# Altium schematic symbol library EDU_High-Speed-Design.SchLib: 69 symbols (part 1 of 2)
Pins are listed as number, name and electrical type; pins without a type are passive.

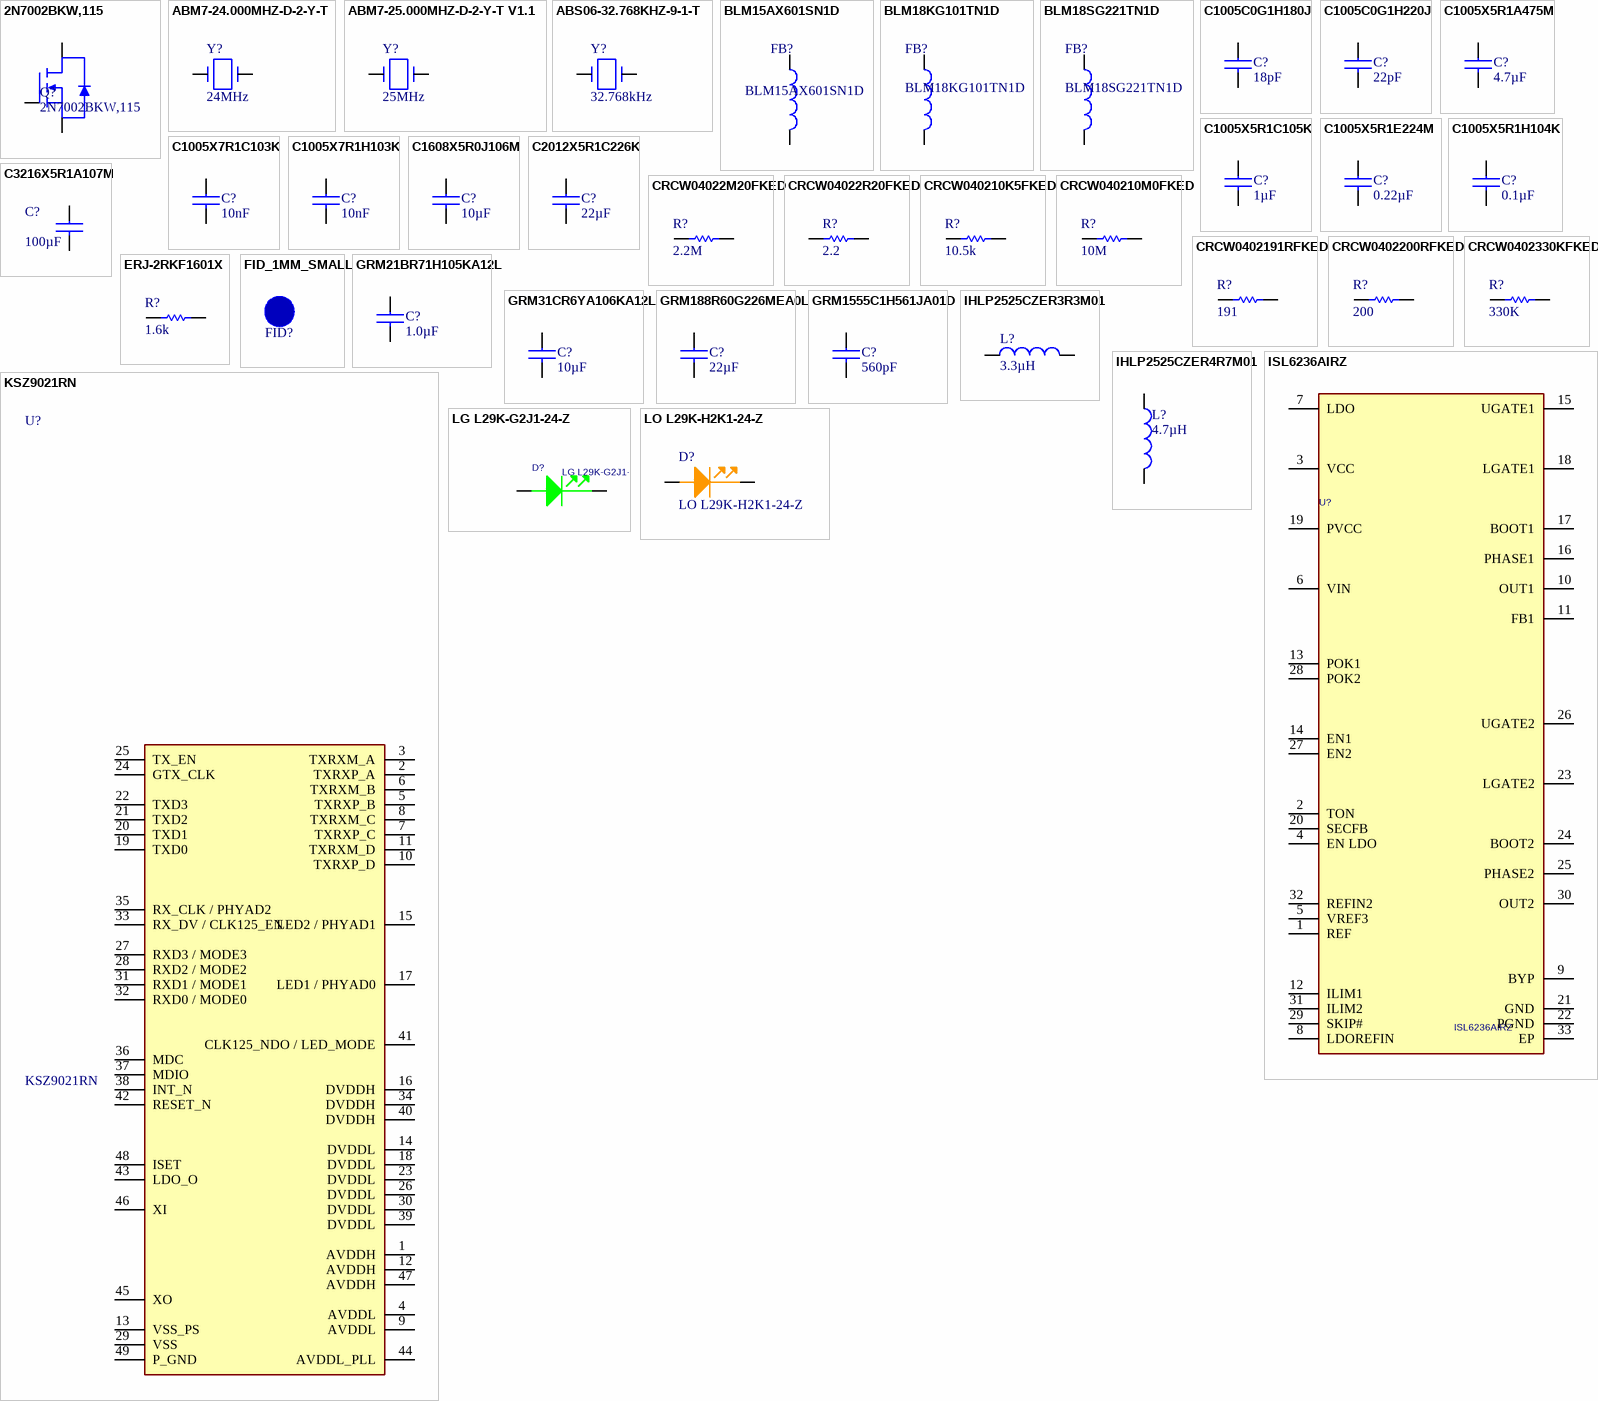
[diagram p0: symbols 2N7002BKW,115 to LO L29K-H2K1-24-Z]

## 2N7002BKW,115
designator Q?
MOSFET N-CH 60V 310MA SOT323; Manufacturer 1: NXP Semiconductors; Supplier 1: Digi-Key; Supplier Part Number 1: 568-5980-1-ND; Manufacturer Part Number 1: 2N7002BKW,115; ComponentLink1URL: http://www.nxp.com/documents/data_sheet/2N7002BKW.pdf; ComponentLink1Description: http://www.nxp.com/documents/data_sheet/2N7002BKW.pdf
footprint SOT-23-3 (SOT23, 3-Leads, Body 2.92x1.3mm, Pitch 0.95mm)
pins: 1 G, 2 S, 3 D

## ABM7-24.000MHZ-D-2-Y-T
designator Y?, comment 24MHz
CRYSTAL 24.0000MHZ 18PF SMD; Manufacturer 1: Abracon Corporation; Manufacturer Part Number 1: ABM7-24.000MHZ-D-2-Y-T; Supplier 1: Digi-Key; Frequency: 24MHz; ComponentLink1URL: http://www.abracon.com/Resonators/abm7.pdf; ComponentLink1Description: http://www.abracon.com/Resonators/abm7.pdf; Supplier Part Number 1: 535-9845-1-ND
footprint ABM7 (2-SMD, No Lead, 6.00mm L x 3.50mm W)
pins: 1, 2

## ABM7-25.000MHZ-D-2-Y-T V1.1
designator Y?, comment 25MHz
CRYSTAL 25.0000 MHZ 18PF SMD; Manufacturer 1: Abracon Corporation; Manufacturer Part Number 1: ABM7-25.000MHZ-D-2-Y-T; Frequency: 25MHz; Supplier 1: Digi-Key; Supplier Part Number 1: 535-9847-1-ND; ComponentLink1URL: http://www.abracon.com/Resonators/abm7.pdf; ComponentLink1Description: http://www.abracon.com/Resonators/abm7.pdf
footprint ABM7 (2-SMD, No Lead, 6.00mm L x 3.50mm W)
pins: 1, 2

## ABS06-32.768KHZ-9-1-T
designator Y?, comment 32.768kHz
CRYSTAL 32.768 KHZ 9.0 PF SMD; Manufacturer 1: Abracon Corporation; Manufacturer Part Number 1: ABS06-32.768KHZ-9-1-T; Frequency: 32.768kHz; Supplier 1: Digi-Key; ComponentLink1URL: http://www.abracon.com/Resonators/ABS06.pdf; ComponentLink1Description: http://www.abracon.com/Resonators/ABS06.pdf; Supplier Part Number 1: 535-10247-1-ND
footprint ABS06
pins: 1, 2

## BLM15AX601SN1D
designator FB?
FERRITE CHIP 600 OHM 0402 420mA; Manufacturer 1: Murata Electronics North America; Manufacturer Part Number 1: BLM15AX601SN1D; Supplier 1: Digi-Key; Supplier Part Number 1: 490-5441-1-ND; ComponentLink1URL: http://search.murata.co.jp/Ceramy/image/img/PDF/ENG/L0110S0100BLM15AX_SN.pdf; ComponentLink1Description: http://search.murata.co.jp/Ceramy/image/img/PDF/ENG/L0110S0100BLM15AX_SN.pdf
footprint L0402 (Chip ferrite bead, 2-Leads, Body 1.00x0.55mm, IPC Medium Density)
pins: 1, 2

## BLM18KG101TN1D
designator FB?
FERRITE CHIP 100 OHM BEAD 0603 3A; Manufacturer 1: Murata Electronics North America; Manufacturer Part Number 1: BLM18KG101TN1D; Supplier 1: Digi-Key; Supplier Part Number 1: 490-5448-1-ND; ComponentLink1URL: http://search.murata.co.jp/Ceramy/image/img/PDF/ENG/L0110S0100BLM18K.pdf; ComponentLink1Description: http://search.murata.co.jp/Ceramy/image/img/PDF/ENG/L0110S0100BLM18K.pdf
footprint L0603 (0.024" x 0.012" (0.60mm x 0.30mm) (L x W))
pins: 1, 2

## BLM18SG221TN1D
designator FB?
FERRITE CHIP 220 OHM 2500MA 0603; Manufacturer 1: Murata Electronics North America; Supplier 1: Digi-Key; Supplier Part Number 1: 490-5225-1-ND; Manufacturer Part Number 1: BLM18SG221TN1D; ComponentLink1URL: http://search.murata.co.jp/Ceramy/image/img/PDF/ENG/L0110S0100BLM18S.pdf; ComponentLink1Description: http://search.murata.co.jp/Ceramy/image/img/PDF/ENG/L0110S0100BLM18S.pdf
footprint L0603 (0.024" x 0.012" (0.60mm x 0.30mm) (L x W))
pins: 1, 2

## C1005C0G1H180J
designator C?, comment 18pF
CAP CER 18PF 50V C0G 5% 0402; Manufacturer 1: TDK Corporation; Manufacturer Part Number 1: C1005C0G1H180J; Capacitance: 18pF; Supplier 1: Digi-Key; Supplier Part Number 1: 445-1238-1-ND; ComponentLink1URL: http://www.tdk.co.jp/tefe02/e412_c.pdf; ComponentLink1Description: http://www.tdk.co.jp/tefe02/e412_c.pdf; Voltage: 50V
footprint C0402
pins: 1, 2

## C1005C0G1H220J
designator C?, comment 22pF
CAP CER 22PF 50V C0G 5% 0402; Manufacturer 1: TDK Corporation; Manufacturer Part Number 1: C1005C0G1H220J; Capacitance: 22pF; Supplier 1: Digi-Key; Supplier Part Number 1: 445-1239-1-ND; ComponentLink1URL: http://www.tdk.co.jp/tefe02/e412_c.pdf; ComponentLink1Description: http://www.tdk.co.jp/tefe02/e412_c.pdf; Voltage: 50V
footprint C0402
pins: 1, 2

## C1005X5R1A475M
designator C?, comment 4.7µF
CAP CER 4.7UF 10V 20% X5R 0402; Manufacturer 1: TDK Corporation; Manufacturer Part Number 1: C1005X5R1A475M; Supplier 1: Digi-Key; Supplier Part Number 1: 445-8023-1-ND; Capacitance: 4.7µF; Voltage: 10V; ComponentLink1URL: http://www.tdk.com/pdf/general_B11.pdf; ComponentLink1Description: http://www.tdk.com/pdf/general_B11.pdf
footprint C0402
pins: 1, 2

## C1005X5R1C105K
designator C?, comment 1µF
CAP CER 1.0UF 16V X5R 0402; Manufacturer 1: TDK Corporation; Manufacturer Part Number 1: C1005X5R1C105K; Capacitance: 1µF; Voltage: 16V; Supplier 1: Digi-Key; Supplier Part Number 1: 445-4978-1-ND; ComponentLink1URL: http://www.tdk.co.jp/tefe02/e412_c.pdf; ComponentLink1Description: http://www.tdk.co.jp/tefe02/e412_c.pdf
footprint C0402
pins: 1, 2

## C1005X5R1E224M
designator C?, comment 0.22µF
CAP CER .22UF 25V X5R 20% 0402; Manufacturer 1: TDK Corporation; Manufacturer Part Number 1: C1005X5R1E224M; Capacitance: 0.22µF; Voltage: 25V; Supplier 1: Digi-Key; Supplier Part Number 1: 445-5945-1-ND; ComponentLink1URL: http://www.tdk.co.jp/tefe02/e412_c.pdf; ComponentLink1Description: http://www.tdk.co.jp/tefe02/e412_c.pdf
footprint C0402
pins: 1, 2

## C1005X5R1H104K
designator C?, comment 0.1µF
CAP CER .10UF 50V X5R 10% 0402; Manufacturer 1: TDK Corporation; Manufacturer Part Number 1: C1005X5R1H104K; Capacitance: 0.1µF; Voltage: 50V; Supplier 1: Digi-Key; Supplier Part Number 1: 445-5942-1-ND; ComponentLink1URL: http://www.tdk.co.jp/tefe02/e412_c.pdf; ComponentLink1Description: http://www.tdk.co.jp/tefe02/e412_c.pdf
footprint C0402
pins: 1, 2

## C1005X7R1C103K
designator C?, comment 10nF
CAP CER 10000PF 16V X7R 10% 0402; Manufacturer: TDK Corporation; Manufacturer Part Number: C1005X7R1C103K; Capacitance: 10nF; Voltage: 16V; Supplier 1: Digi-Key; Supplier Part Number 1: 445-1262-1-ND; ComponentLink1URL: http://www.tdk.co.jp/tefe02/e412_c.pdf; ComponentLink1Description: http://www.tdk.co.jp/tefe02/e412_c.pdf
footprint C0402
pins: 1, 2

## C1005X7R1H103K
designator C?, comment 10nF
CAP CER 10000PF 50V 10% X7R 0402; Manufacturer: TDK Corporation; Manufacturer Part Number: C1005X7R1H103K; Capacitance: 10nF; Voltage: 50V; Supplier 1: Digi-Key; Supplier Part Number 1: 445-6850-1-ND; ComponentLink1URL: http://www.tdk.co.jp/tefe02/e412_c.pdf; ComponentLink1Description: http://www.tdk.co.jp/tefe02/e412_c.pdf
footprint C0402
pins: 1, 2

## C1608X5R0J106M
designator C?, comment 10µF
CAP CER 10UF 6.3V X5R 20% 0603; Manufacturer 1: TDK Corporation; Manufacturer Part Number 1: C1608X5R0J106M; Capacitance: 10µF; Voltage: 6.3V; Supplier 1: Digi-Key; Supplier Part Number 1: 445-4112-1-ND; ComponentLink1URL: http://www.tdk.com/pdf/general_B11.pdf; ComponentLink1Description: http://www.tdk.com/pdf/general_B11.pdf
footprint C0603
pins: 1, 2

## C2012X5R1C226K
designator C?, comment 22µF
CAP CER 22UF 16V 10% X5R 0805; Manufacturer 1: TDK Corporation; Manufacturer Part Number 1: C2012X5R1C226K; Supplier 1: Digi-Key; Supplier Part Number 1: 445-6797-1-ND; Capacitance: 22µF; Voltage: 16V; ComponentLink1URL: http://www.tdk.com/pdf/general_B11.pdf; ComponentLink1Description: http://www.tdk.com/pdf/general_B11.pdf
footprint C0805
pins: 1, 2

## C3216X5R1A107M
designator C?, comment 100µF
CAP CER 100UF 10V X5R 20% 1206; Manufacturer 1: TDK Corporation; Manufacturer Part Number 1: C3216X5R1A107M; Capacitance: 100µF; Voltage: 10V; Supplier 1: Digi-Key; Supplier Part Number 1: 445-6007-1-ND; ComponentLink1URL: http://www.tdk.com/pdf/general_B11.pdf; ComponentLink1Description: http://www.tdk.com/pdf/general_B11.pdf
footprint C1206
pins: 1, 2

## CRCW04022M20FKED
designator R?, comment 2.2M
RES 2.20M OHM 1/16W 1% 0402 SMD; Manufacturer 1: Vishay Dale; Manufacturer Part Number 1: CRCW04022M20FKED; Supplier 1: Digi-Key; Resistance: 2.2M; ComponentLink1URL: http://www.vishay.com/doc?20035; ComponentLink1Description: http://www.vishay.com/doc?20035; Supplier Part Number 1: 541-2.20MLCT-ND
footprint R0402
pins: 1, 2

## CRCW04022R20FKED
designator R?, comment 2.2
RES 2.20 OHM 1/16W 1% 0402 SMD; Manufacturer 1: Vishay Dale; Manufacturer Part Number 1: CRCW04022R20FKED; Supplier 1: Digi-Key; Supplier Part Number 1: 541-2.20LLCT-ND; Resistance: 2.2; ComponentLink1URL: http://www.vishay.com/docs/20035/dcrcwe3.pdf; ComponentLink1Description: http://www.vishay.com/docs/20035/dcrcwe3.pdf
footprint R0402
pins: 1, 2

## CRCW040210K5FKED
designator R?, comment 10.5k
RES 10.5K OHM 1/16W 1% 0402 SMD; Manufacturer 1: Vishay/Dale; Manufacturer Part Number 1: CRCW040210K5FKED; Resistance: 10.5k; Supplier 1: Digi-Key; Supplier Part Number 1: 541-10.5KLCT-ND; ComponentLink1URL: http://www.vishay.com/doc?20035; ComponentLink1Description: http://www.vishay.com/doc?20035
footprint R0402
pins: 1, 2

## CRCW040210M0FKED
designator R?, comment 10M
RES 10.0M OHM 1/16W 1% 0402 SMD; Manufacturer 1: Vishay Dale; Manufacturer Part Number 1: CRCW040210M0FKED; Supplier 1: Digi-Key; Supplier Part Number 1: 541-10.0MLCT-ND; Resistance: 10M; ComponentLink1URL: http://www.vishay.com/doc?20035; ComponentLink1Description: http://www.vishay.com/doc?20035
footprint R0402
pins: 1, 2

## CRCW0402191RFKED
designator R?, comment 191
RES 191 OHM 1/16W 1% 0402 SMD; Manufacturer: Vishay Dale; Manufacturer Part Number: CRCW0402191RFKED; Supplier 1: Digi-Key; Resistance: 191; ComponentLink1URL: http://www.vishay.com/doc?20035; ComponentLink1Description: http://www.vishay.com/doc?20035; Supplier Part Number 1: 541-191LCT-ND
footprint R0402
pins: 1, 2

## CRCW0402200RFKED
designator R?, comment 200
RES 200 OHM 1/16W 1% 0402 SMD; Manufacturer 1: Vishay Dale; Manufacturer Part Number 1: CRCW0402200RFKED; Supplier 1: Digi-Key; Resistance: 200; ComponentLink1URL: http://www.vishay.com/doc?20035; ComponentLink1Description: http://www.vishay.com/doc?20035; Supplier Part Number 1: 541-200LCT-ND
footprint R0402
pins: 1, 2

## CRCW0402330KFKED
designator R?, comment 330K
RES 330K OHM 1/16W 1% 0402 SMD; Manufacturer 1: Vishay Dale; Manufacturer Part Number 1: CRCW0402330KFKED; Supplier 1: Digi-Key; Supplier Part Number 1: 541-330KLCT-ND; Resistance: 330K; ComponentLink1URL: http://www.vishay.com/doc?20035; ComponentLink1Description: http://www.vishay.com/doc?20035
footprint R0402
pins: 1, 2

## ERJ-2RKF1601X
designator R?, comment 1.6k
RES 1.6K OHM 1/10W 1% 0402 SMD; Manufacturer 1: Panasonic Electronic Components; Manufacturer Part Number 1: ERJ-2RKF1601X; Supplier 1: Digi-Key; Resistance: 1.6k; ComponentLink1URL: http://industrial.panasonic.com/www-cgi/jvcr13pz.cgi?E+PZ+3+AOA0002+ERJ2RKF1601X+7+WW; ComponentLink1Description: http://industrial.panasonic.com/www-cgi/jvcr13pz.cgi?E+PZ+3+AOA0002+ERJ2RKF1601X+7+WW; Supplier Part Number 1: P1.60KLCT-ND
footprint R0402
pins: 1, 2

## FID_1MM_SMALL
designator FID?  (value not drawn)  (no BOM)
FIDUCIAL 40MIL D, 52MIL MASK; Manufacture Part Number 1: FID_1MM_SMALL
footprint FID_40X52D

## GRM21BR71H105KA12L
designator C?, comment 1.0µF
CAP CER 1UF 50V X7R 0805; Manufacturer 1: Murata Electronics North America; Manufacturer Part Number 1: GRM21BR71H105KA12L; Capacitance: 1.0µF; Supplier 1: Digi-Key; Supplier Part Number 1: 490-4736-1-ND; ComponentLink1URL: http://search.murata.co.jp/Ceramy/image/img/PDF/ENG/GRM21BR71H105KA12.pdf; ComponentLink1Description: http://search.murata.co.jp/Ceramy/image/img/PDF/ENG/GRM21BR71H105KA12.pdf; Voltage: 50V
footprint C0805
pins: 1, 2

## GRM31CR6YA106KA12L
designator C?, comment 10µF
CAP CER 10UF 35V X5R 1206; Manufacturer 1: Murata Electronics North America; Manufacturer Part Number 1: GRM31CR6YA106KA12L; Capacitance: 10µF; Supplier 1: Digi-Key; Supplier Part Number 1: 490-5524-1-ND; ComponentLink1URL: http://www.murata.com/products/catalog/pdf/c02e.pdf; ComponentLink1Description: http://www.murata.com/products/catalog/pdf/c02e.pdf; Voltage: 35V
footprint C1206
pins: 1, 2

## GRM188R60G226MEA0L
designator C?, comment 22µF
CAP CER 22UF 4V 20% X5R 0603; Manufacturer 1: Murata Electronics North America; Manufacturer Part Number 1: GRM188R60G226MEA0L; Supplier 1: Digi-Key; Supplier Part Number 1: 490-5526-1-ND; Capacitance: 22µF; Voltage: 4V; ComponentLink1URL: http://www.murata.com/products/catalog/pdf/c02e.pdf; ComponentLink1Description: http://www.murata.com/products/catalog/pdf/c02e.pdf
footprint C0603
pins: 1, 2

## GRM1555C1H561JA01D
designator C?, comment 560pF
CAP CER 560PF 50V C0G 0402; Manufacturer 1: Murata Electronics North America; Manufacturer Part Number 1: GRM1555C1H561JA01D; Capacitance: 560pF; Voltage: 50V; Supplier 1: Digi-Key; Supplier Part Number 1: 490-3238-1-ND; ComponentLink1URL: http://search.murata.co.jp/Ceramy/image/img/PDF/ENG/GRM1555C1H561JA01.pdf; ComponentLink1Description: http://search.murata.co.jp/Ceramy/image/img/PDF/ENG/GRM1555C1H561JA01.pdf
footprint C0402
pins: 1, 2

## IHLP2525CZER3R3M01
designator L?, comment 3.3µH
INDUCTOR POWER 3.3UH 6A SMD; Manufacturer 1: Vishay Dale; Manufacturer Part Number 1: IHLP2525CZER3R3M01; Current - Saturation: 13.5A; Supplier 1: Digi-Key; Supplier Part Number 1: 541-1009-1-ND; Inductance: 3.3µH; Current: 6A; ComponentLink1URL: http://www.vishay.com/doc?34104; ComponentLink1Description: http://www.vishay.com/doc?34104
footprint IHLP2525 (6.86mm L x 6.47mm W)
pins: 1, 2

## IHLP2525CZER4R7M01
designator L?, comment 4.7µH
INDUCTOR POWER 4.7UH 5.5A SMD; Manufacturer 1: Vishay/Dale; Manufacturer Part Number 1: IHLP2525CZER4R7M01; Current - Saturation: 10A; Inductance: 4.7µH; Current: 5.5A; Supplier 1: Digi-Key; Supplier Part Number 1: 541-1010-1-ND; ComponentLink1URL: http://www.vishay.com/doc?34104; ComponentLink1Description: http://www.vishay.com/doc?34104
footprint IHLP2525 (6.86mm L x 6.47mm W)
pins: 1, 2

## ISL6236AIRZ
designator U?
IC MAIN PWR CTRLR QUAD 32-QFN; Manufacturer 1: Intersil; Manufacturer Part Number 1: ISL6236AIRZ; Supplier 1: Digi-Key; Supplier Part Number 1: ISL6236AIRZ-ND
footprint ISL6236AIRZ (32-QFN, 5.00 mm L x 5.00mm W)
pins: 1 REF, 2 TON, 3 VCC, 4 EN LDO, 5 VREF3, 6 VIN, 7 LDO, 8 LDOREFIN, 9 BYP, 10 OUT1, 11 FB1, 12 ILIM1, 13 POK1, 14 EN1, 15 UGATE1, 16 PHASE1, 17 BOOT1, 18 LGATE1, 19 PVCC, 20 SECFB, 21 GND, 22 PGND, 23 LGATE2, 24 BOOT2, 25 PHASE2, 26 UGATE2, 27 EN2, 28 POK2, 29 SKIP#, 30 OUT2, 31 ILIM2, 32 REFIN2, 33 EP

## KSZ9021RN
designator U?
IC TXRX 10/100/1000 SGL 48QFN; Manufacturer 1: Micrel Inc; Supplier 1: Digi-Key; Manufacturer Part Number 1: KSZ9021RN; Supplier Part Number 1: 576-3637-ND
footprint KSZ9021RN (48-QFN, 7.00mm L x 7.00mm W)
pins: 1 AVDDH, 2 TXRXP_A, 3 TXRXM_A, 4 AVDDL, 5 TXRXP_B, 6 TXRXM_B, 7 TXRXP_C, 8 TXRXM_C, 9 AVDDL, 10 TXRXP_D, 11 TXRXM_D, 12 AVDDH, 13 VSS_PS, 14 DVDDL, 15 LED2 / PHYAD1, 16 DVDDH, 17 LED1 / PHYAD0, 18 DVDDL, 19 TXD0, 20 TXD1, 21 TXD2, 22 TXD3, 23 DVDDL, 24 GTX_CLK, 25 TX_EN, 26 DVDDL, 27 RXD3 / MODE3, 28 RXD2 / MODE2, 29 VSS, 30 DVDDL, 31 RXD1 / MODE1, 32 RXD0 / MODE0, 33 RX_DV / CLK125_EN, 34 DVDDH, 35 RX_CLK / PHYAD2, 36 MDC, 37 MDIO, 38 INT_N, 39 DVDDL, 40 DVDDH, 41 CLK125_NDO / LED_MODE, 42 RESET_N, 43 LDO_O, 44 AVDDL_PLL, 45 XO, 46 XI, 47 AVDDH, 48 ISET, 49 P_GND

## LG L29K-G2J1-24-Z
designator D?
LED SMARTLED GREEN 570NM 0603; Manufacturer 1: OSRAM Opto Semiconductors Inc; Manufacturer Part Number 1: LG L29K-G2J1-24-Z; Supplier 1: Digi-Key; Supplier Part Number 1: 475-2709-1-ND
footprint LED_0603_GREEN (0603 (1608 Metric), 1.70mm L x 0.80mm W)
pins: 1 cathode, 2 ANODE

## LO L29K-H2K1-24-Z
designator D?
LED SMARTLED ORANGE 606NM 0603; Manufacturer 1: OSRAM Opto Semiconductors Inc; Supplier 1: Digi-Key; Supplier Part Number 1: 475-2740-1-ND; Manufacturer Part Number 1: LO L29K-H2K1-24-Z
footprint LED_0603_ORANGE (0603 (1608 Metric), 1.70mm L x 0.80mm W)
pins: 1 cathode, 2 ANODE

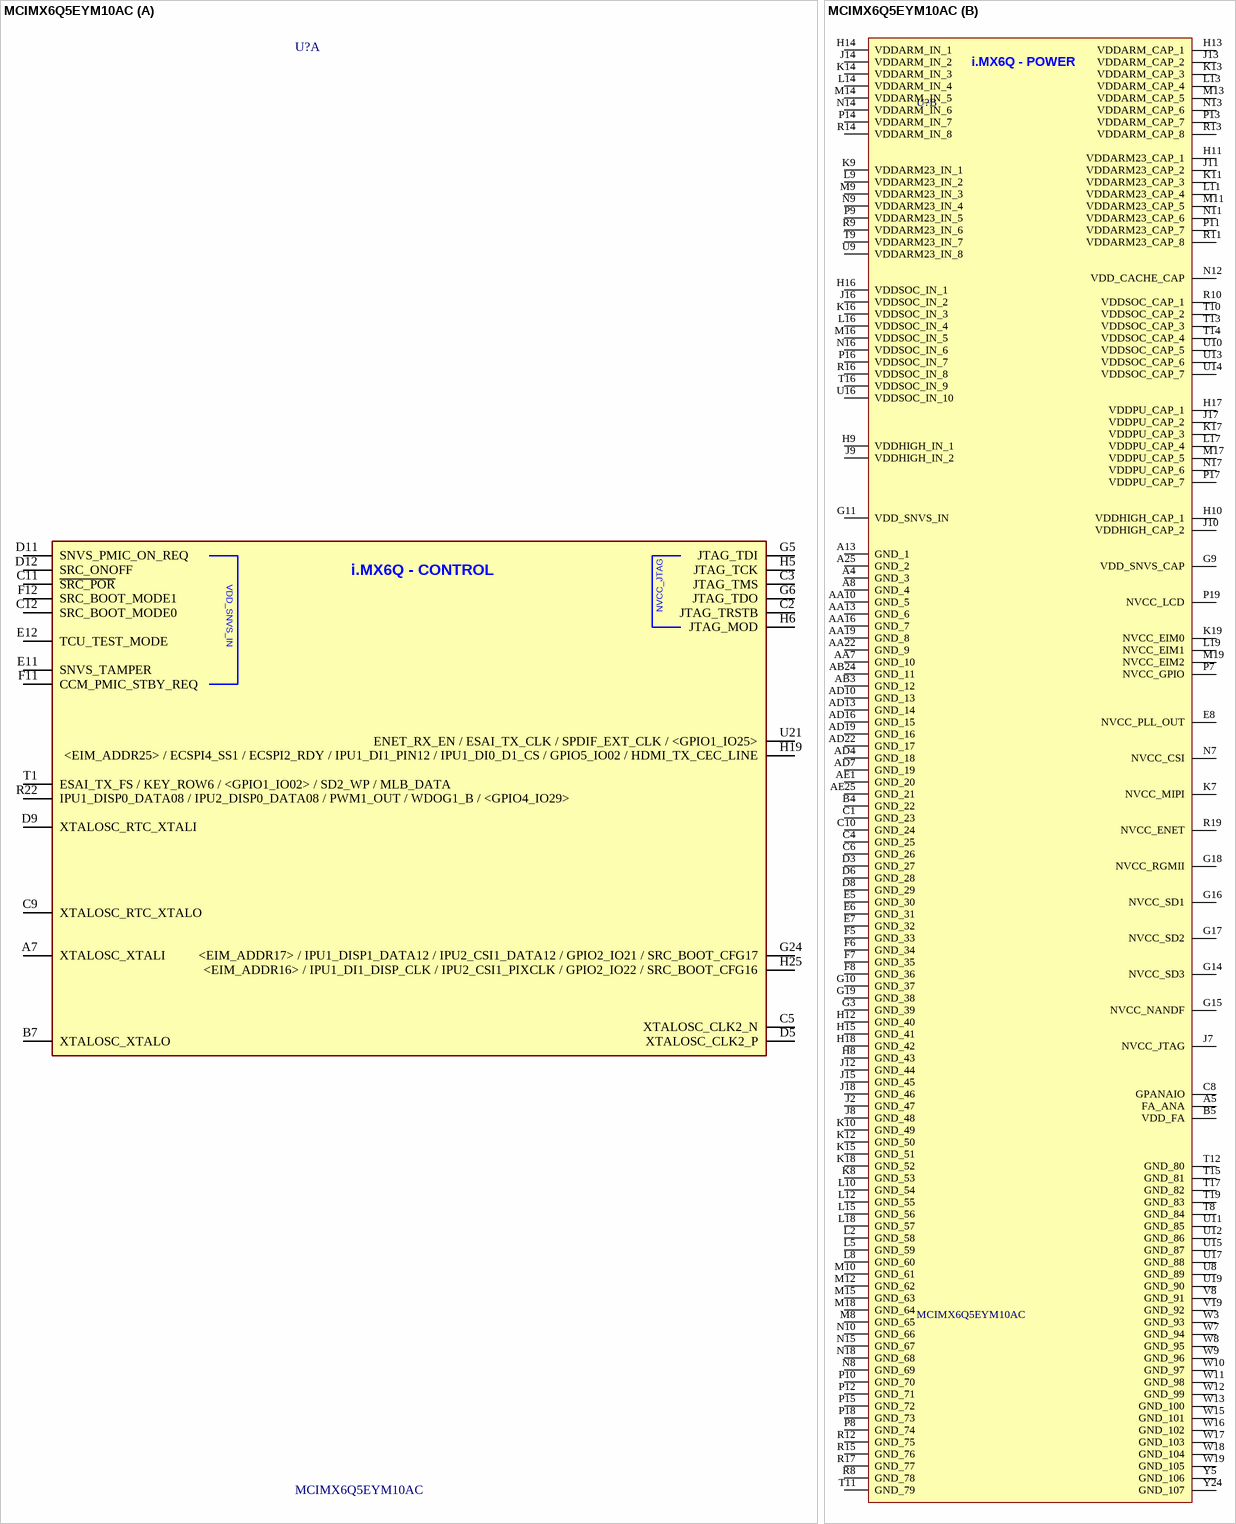
[diagram p1: symbol MCIMX6Q5EYM10AC]

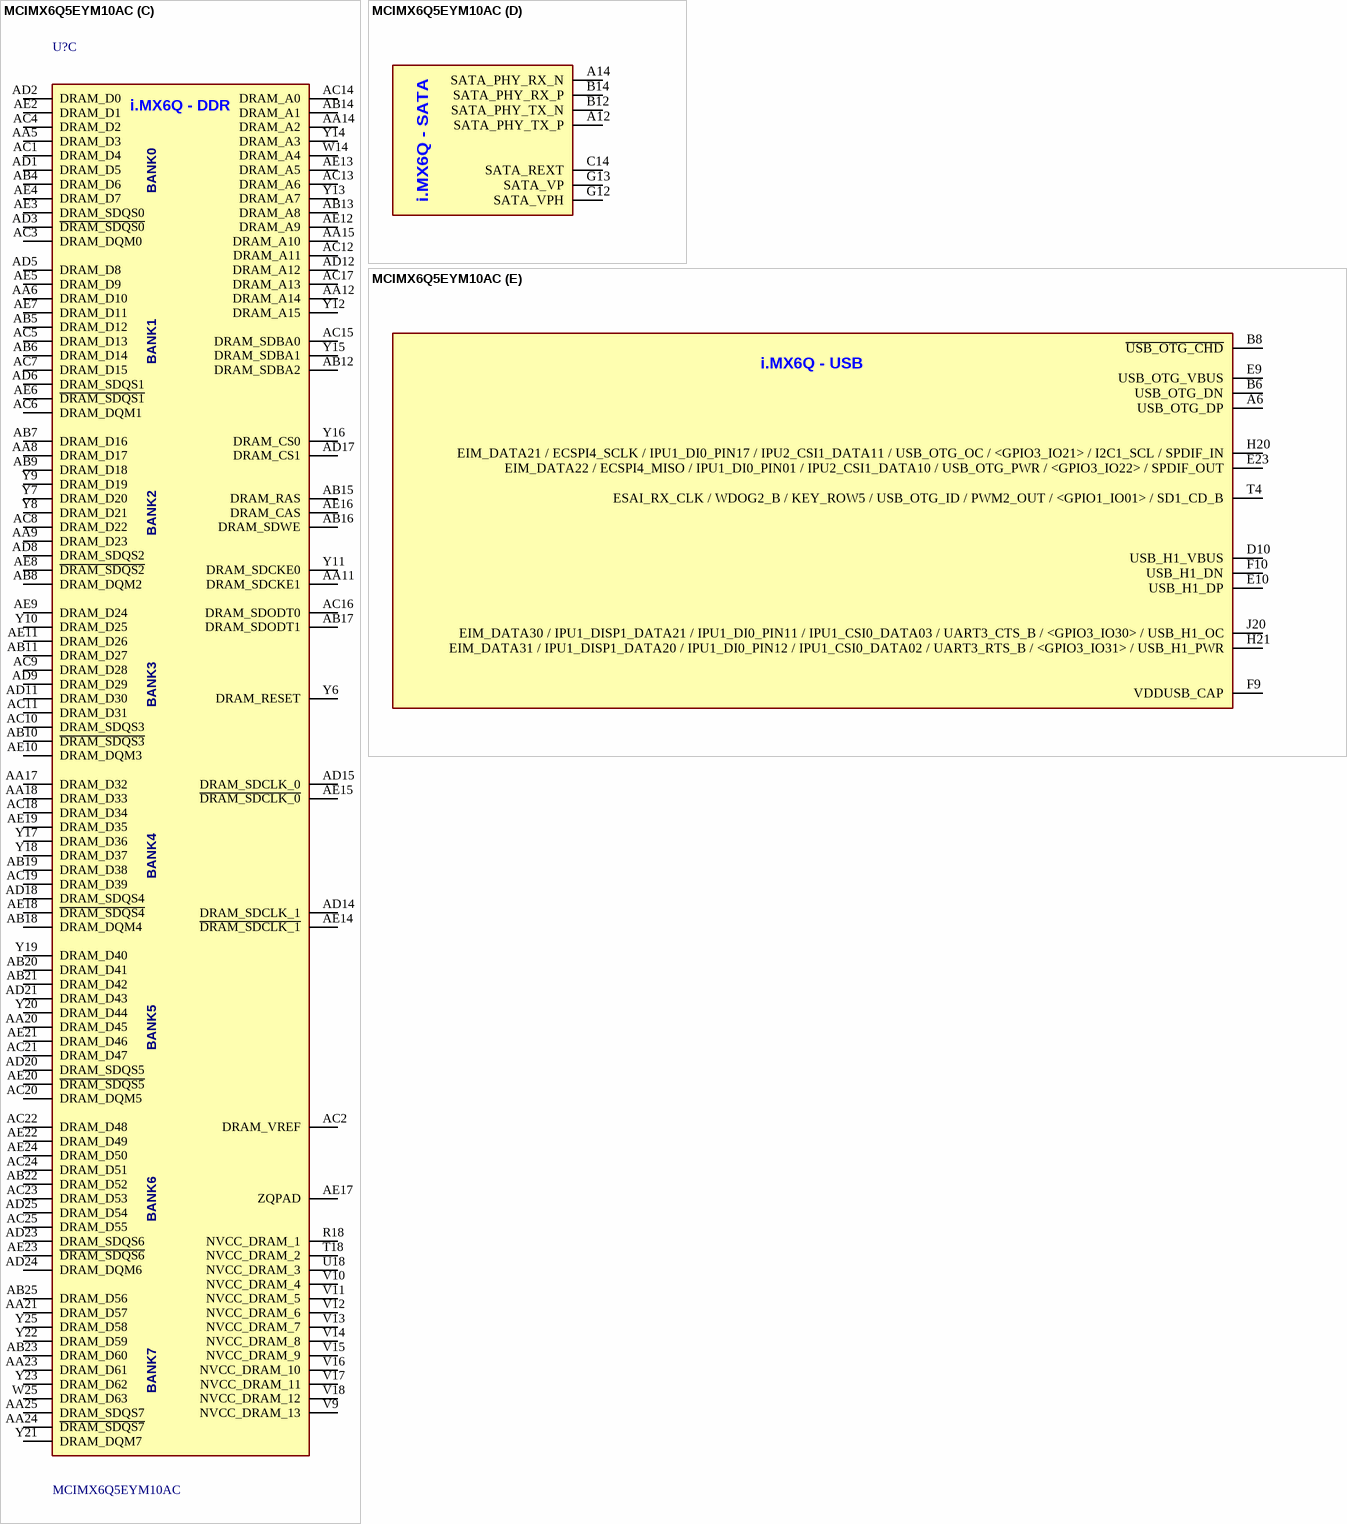
[diagram p2: symbol MCIMX6Q5EYM10AC]

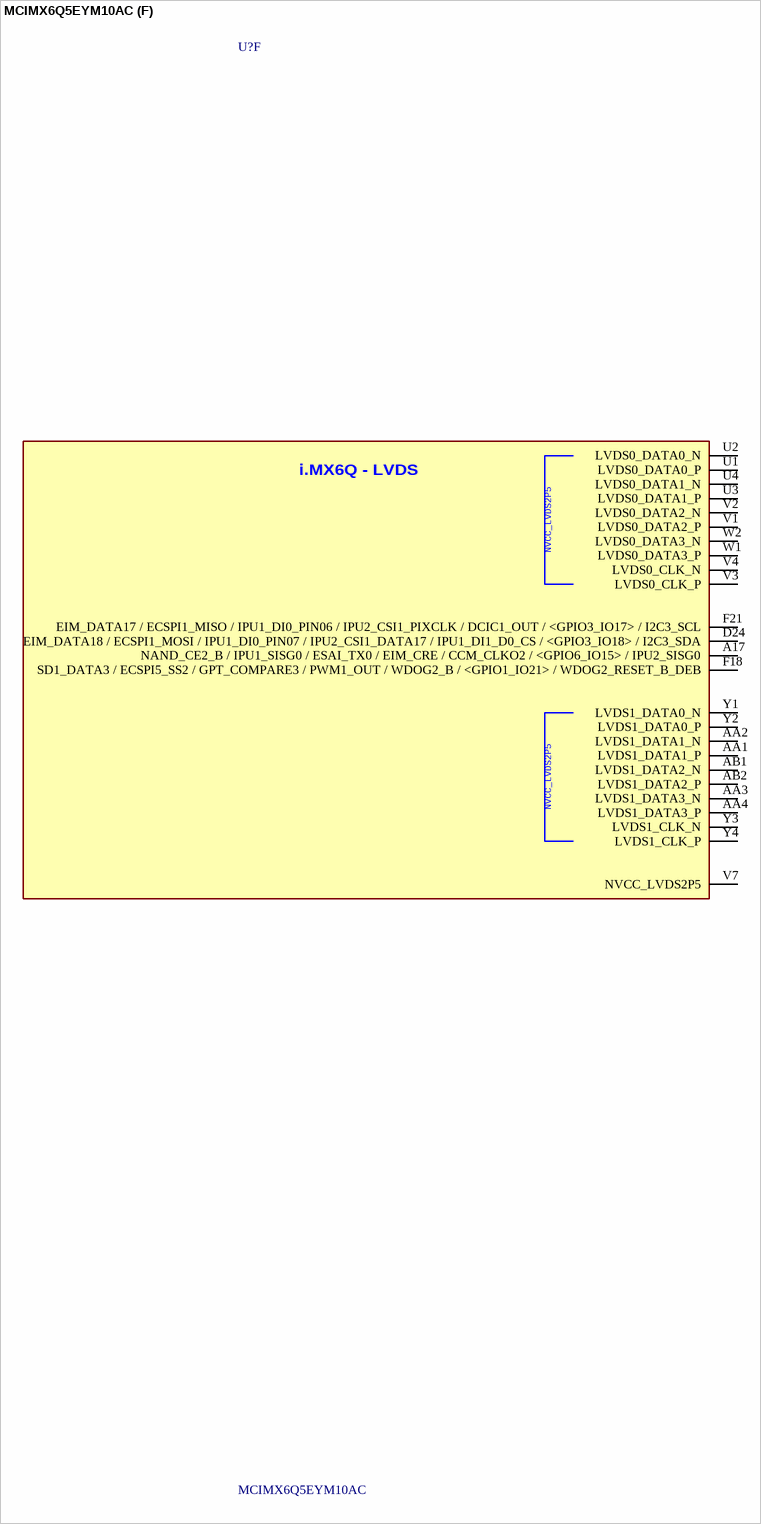
[diagram p3: symbol MCIMX6Q5EYM10AC]

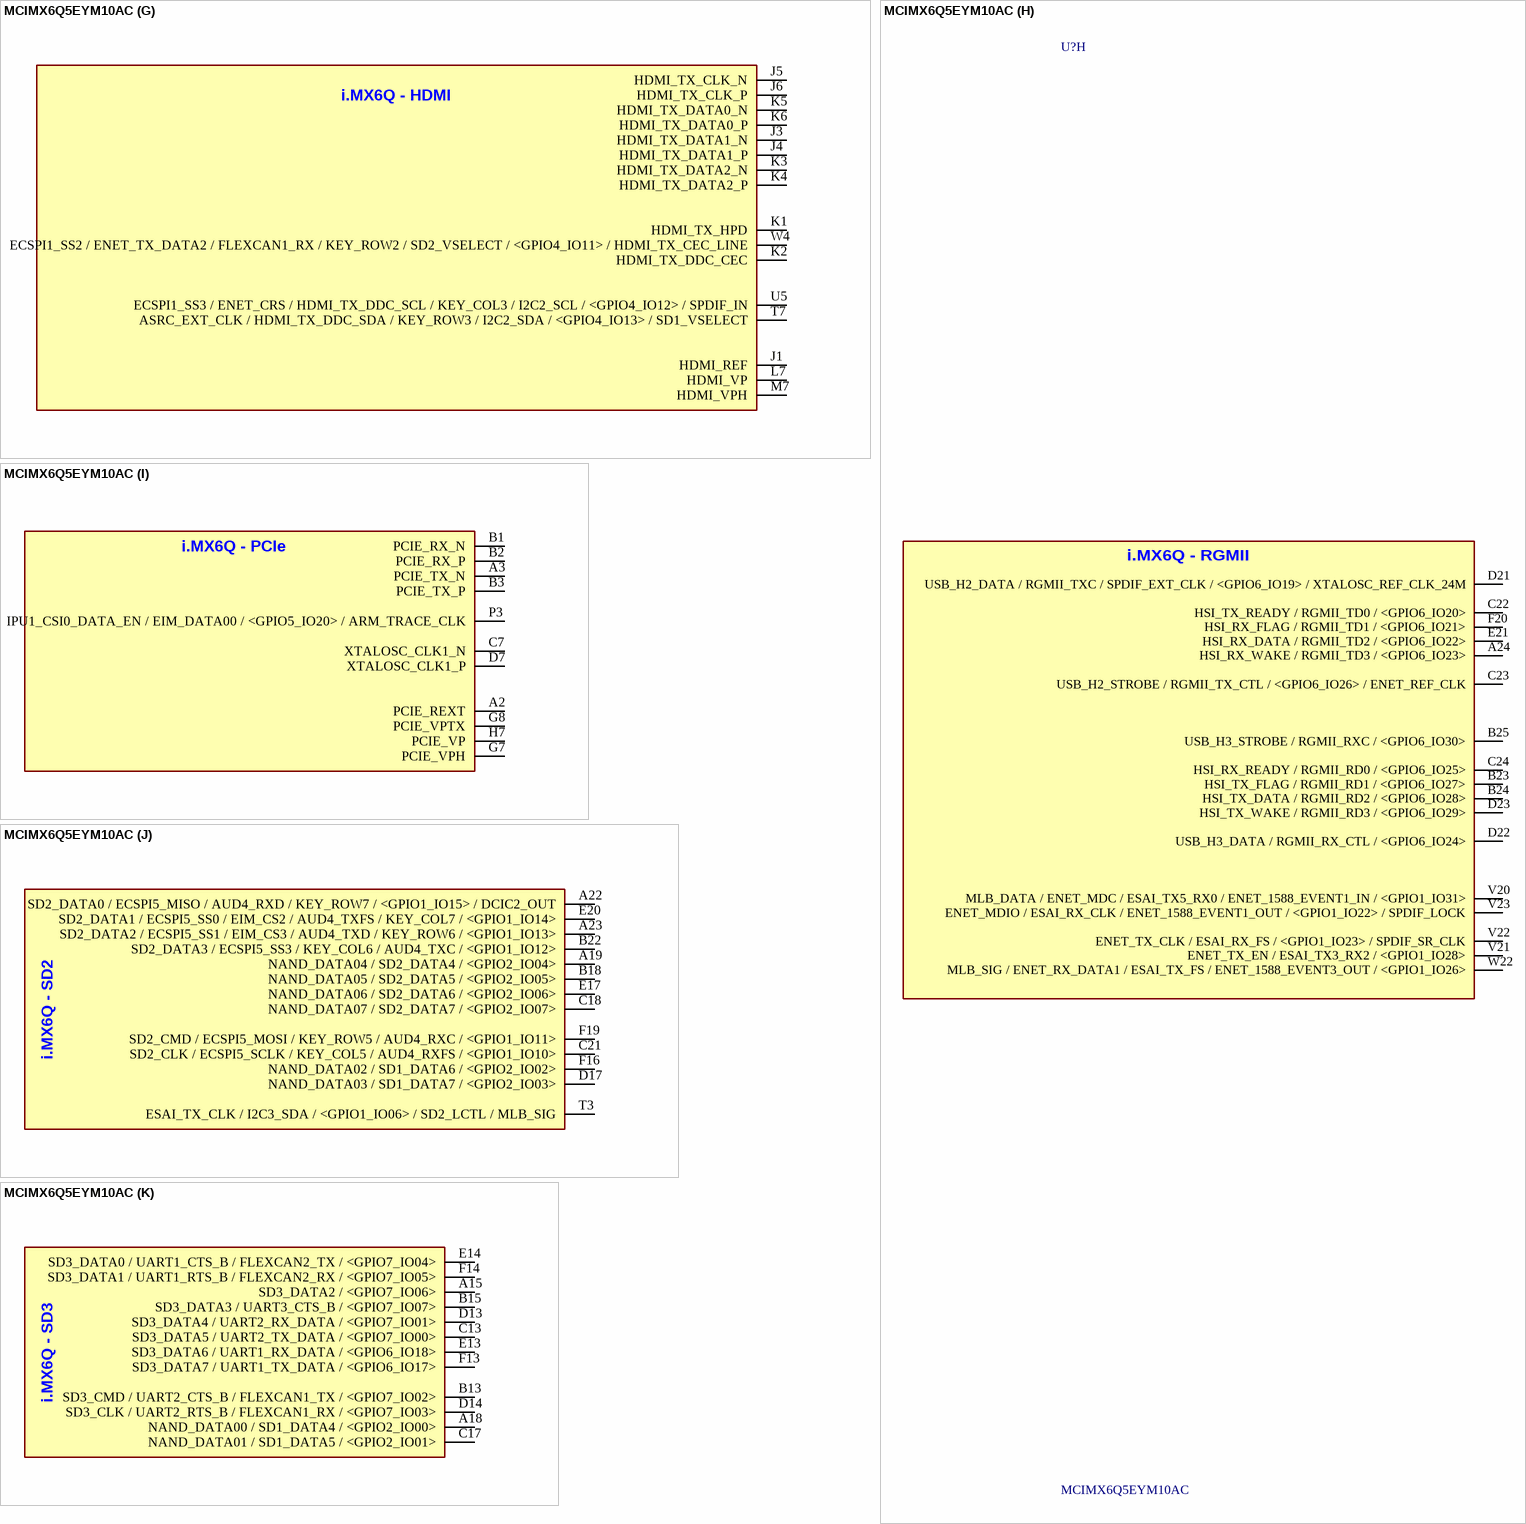
[diagram p4: symbol MCIMX6Q5EYM10AC]

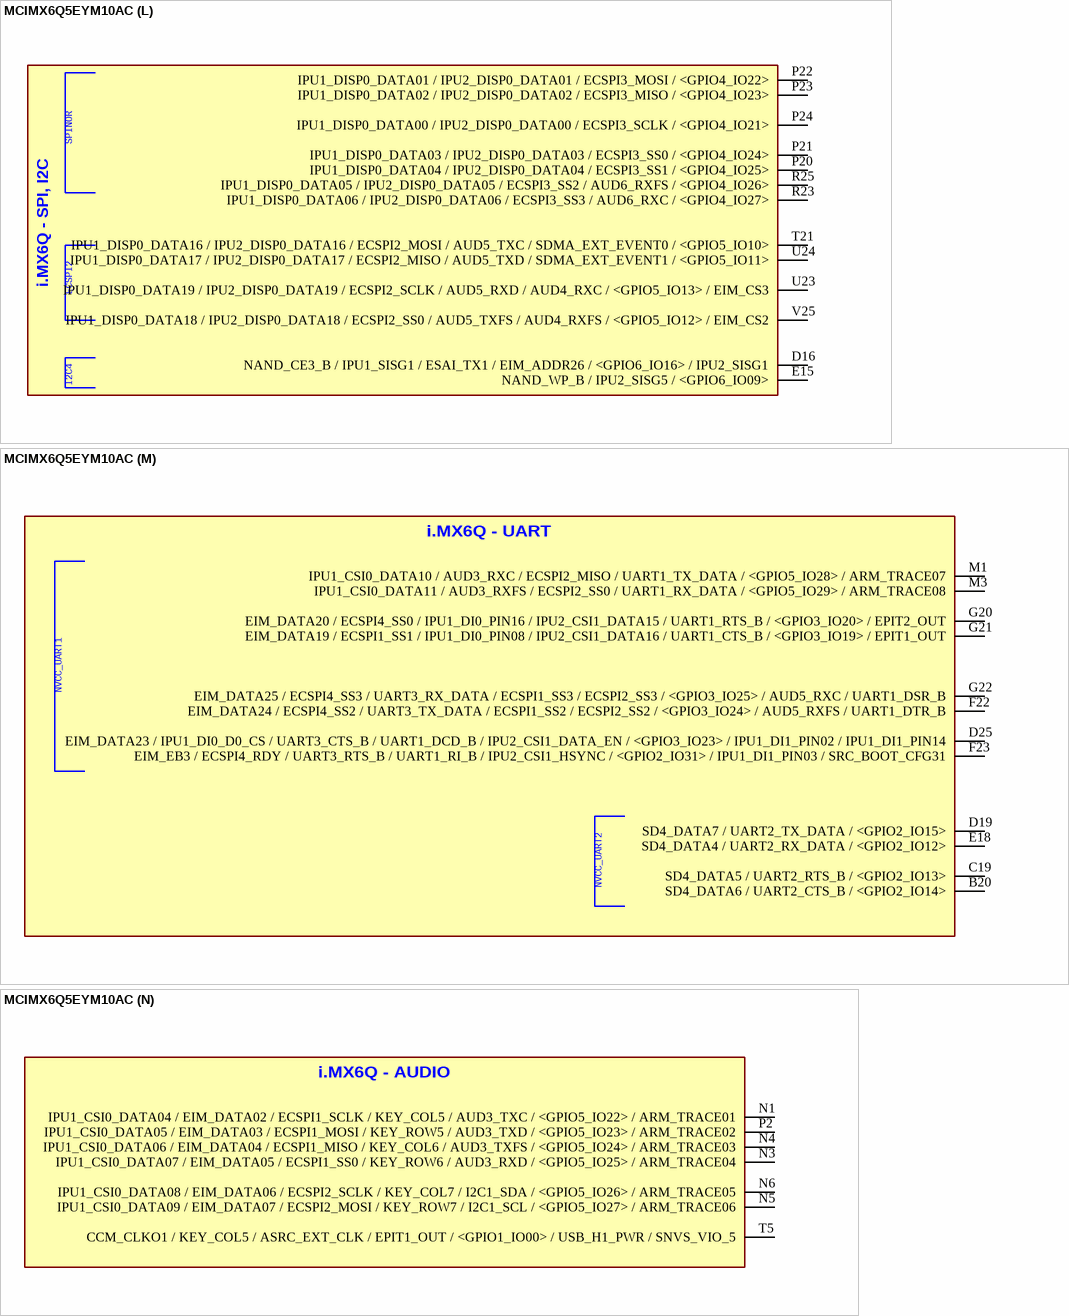
[diagram p5: symbol MCIMX6Q5EYM10AC]

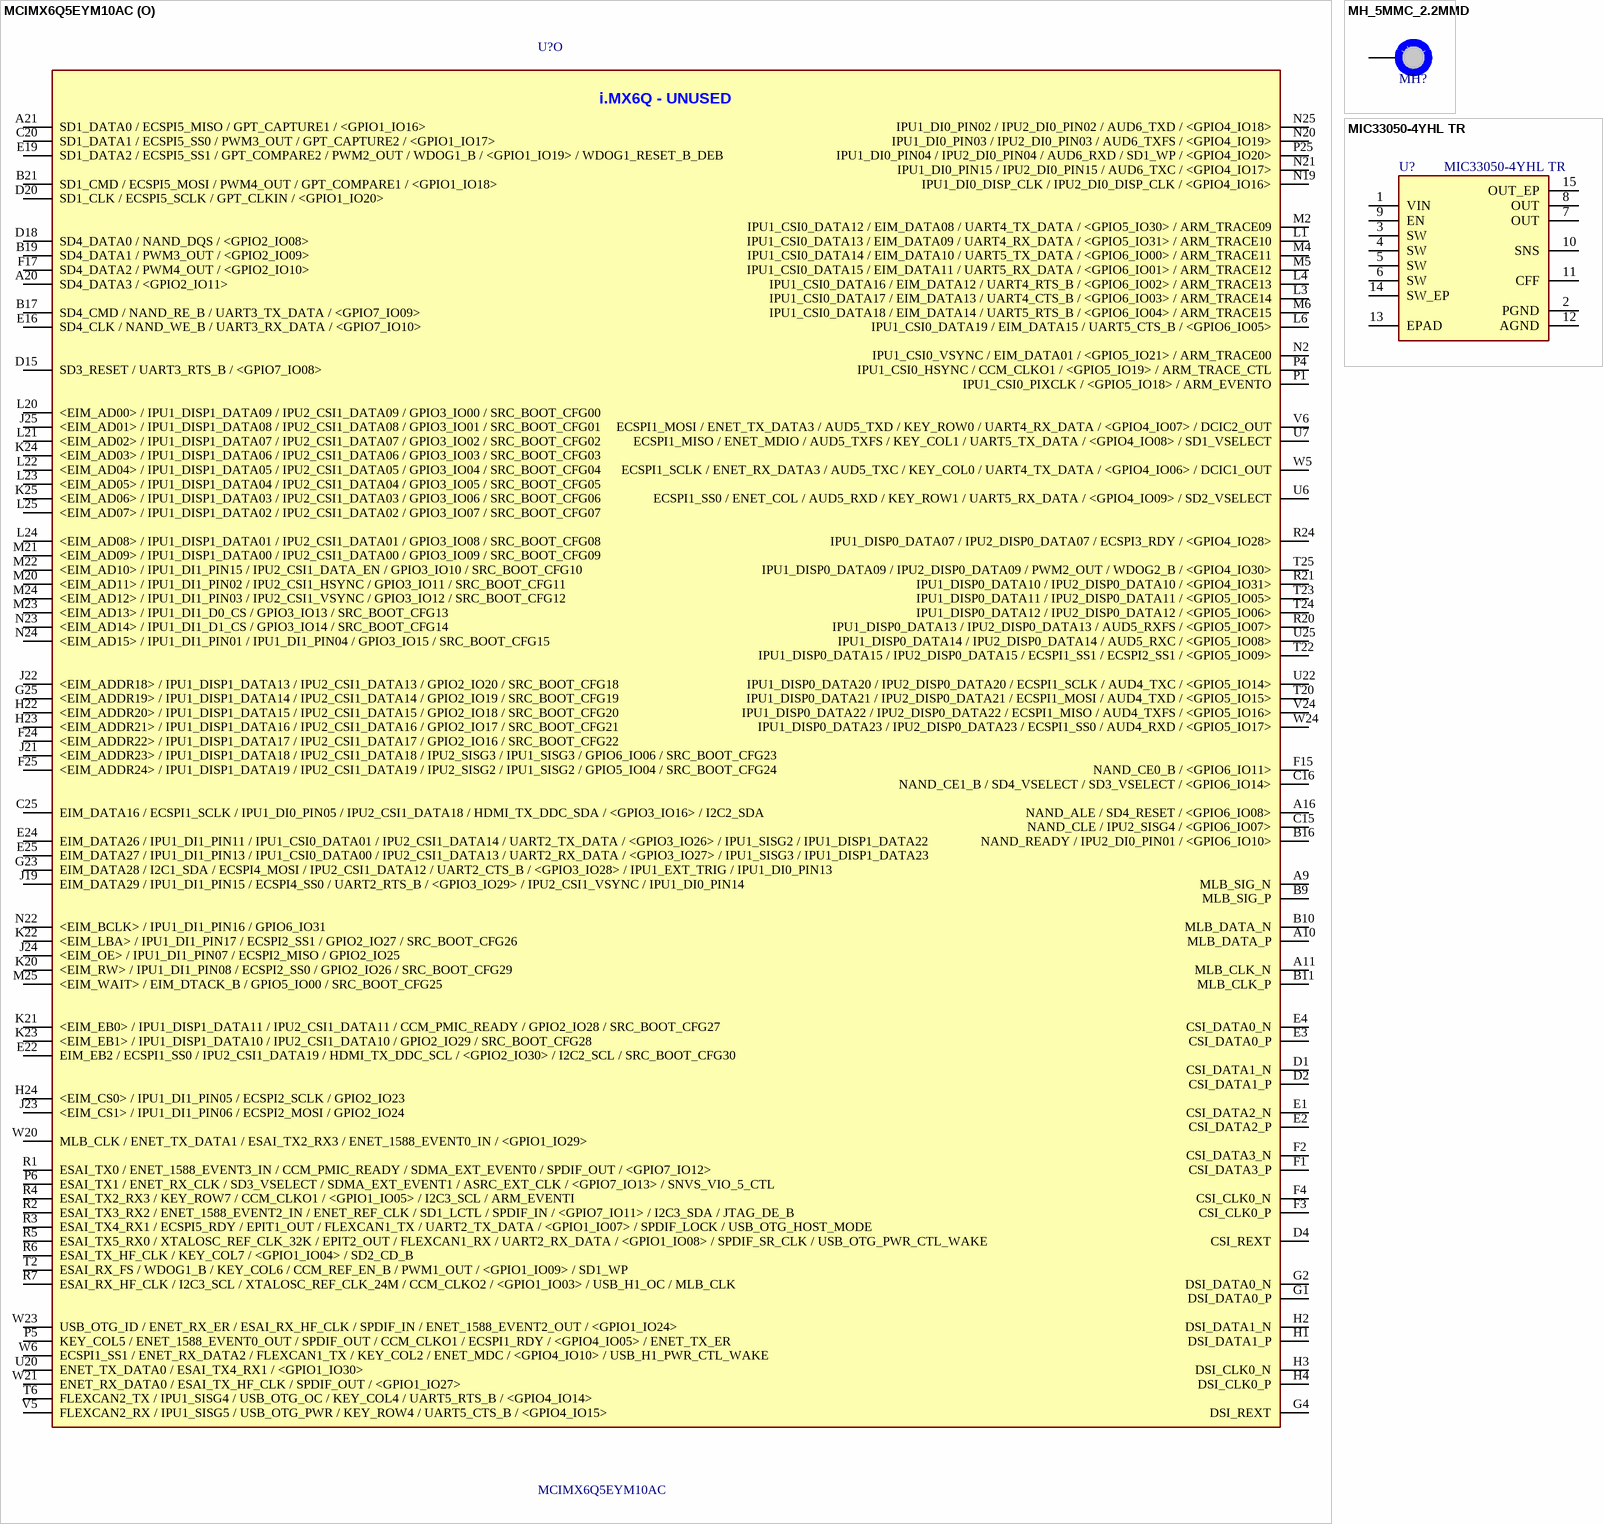
[diagram p6: symbols MCIMX6Q5EYM10AC to MIC33050-4YHL TR]

## MCIMX6Q5EYM10AC
designator U?
IC MCU 32BIT ARM QUAD 624FCBGA; Manufacturer 1: Freescale Semiconductor; Supplier 1: Digi-Key; Manufacturer Part Number 1: MCIMX6Q5EYM10AC; Supplier Part Number 1: MCIMX6Q5EYM10AC-ND
footprint MCIMX6Q5EYM10AC (624-FCPBGA, 21.00mm L x 21.00mm W)
part A pins: A7 XTALOSC_XTALI, B7 XTALOSC_XTALO, C2 JTAG_TRSTB, C3 JTAG_TMS, C5 XTALOSC_CLK2_N, C9 XTALOSC_RTC_XTALO, C11 ~{SRC_POR}, C12 SRC_BOOT_MODE0, D5 XTALOSC_CLK2_P, D9 XTALOSC_RTC_XTALI, D11 SNVS_PMIC_ON_REQ, D12 SRC_ONOFF, E11 SNVS_TAMPER, E12 TCU_TEST_MODE, F11 CCM_PMIC_STBY_REQ, F12 SRC_BOOT_MODE1, G5 JTAG_TDI, G6 JTAG_TDO, G24 <EIM_ADDR17> / IPU1_DISP1_DATA12 / IPU2_CSI1_DATA12 / GPIO2_IO21 / SRC_BOOT_CFG17, H5 JTAG_TCK, H6 JTAG_MOD, H19 <EIM_ADDR25> / ECSPI4_SS1 / ECSPI2_RDY / IPU1_DI1_PIN12 / IPU1_DI0_D1_CS / GPIO5_IO02 / HDMI_TX_CEC_LINE, H25 <EIM_ADDR16> / IPU1_DI1_DISP_CLK / IPU2_CSI1_PIXCLK / GPIO2_IO22 / SRC_BOOT_CFG16, R22 IPU1_DISP0_DATA08 / IPU2_DISP0_DATA08 / PWM1_OUT / WDOG1_B / <GPIO4_IO29>, T1 ESAI_TX_FS / KEY_ROW6 / <GPIO1_IO02> / SD2_WP / MLB_DATA, U21 ENET_RX_EN / ESAI_TX_CLK / SPDIF_EXT_CLK / <GPIO1_IO25>
part B pins: A4 GND_3, A5 FA_ANA, A8 GND_4, A13 GND_1, A25 GND_2, AA7 GND_10, AA10 GND_5, AA13 GND_6, AA16 GND_7, AA19 GND_8, AA22 GND_9, AB3 GND_12, AB24 GND_11, AD4 GND_18, AD7 GND_19, AD10 GND_13, AD13 GND_14, AD16 GND_15, AD19 GND_16, AD22 GND_17, AE1 GND_20, AE25 GND_21, B4 GND_22, B5 VDD_FA, C1 GND_23, C4 GND_25, C6 GND_26, C8 GPANAIO, C10 GND_24, D3 GND_27, D6 GND_28, D8 GND_29, E5 GND_30, E6 GND_31, E7 GND_32, E8 NVCC_PLL_OUT, F5 GND_33, F6 GND_34, F7 GND_35, F8 GND_36, G3 GND_39, G9 VDD_SNVS_CAP, G10 GND_37, G11 VDD_SNVS_IN, G14 NVCC_SD3, G15 NVCC_NANDF, G16 NVCC_SD1, G17 NVCC_SD2, G18 NVCC_RGMII, G19 GND_38, H8 GND_43, H9 VDDHIGH_IN_1, H10 VDDHIGH_CAP_1, H11 VDDARM23_CAP_1, H12 GND_40, H13 VDDARM_CAP_1, H14 VDDARM_IN_1, H15 GND_41, H16 VDDSOC_IN_1, H17 VDDPU_CAP_1, H18 GND_42, J2 GND_47, J7 NVCC_JTAG, J8 GND_48, J9 VDDHIGH_IN_2, J10 VDDHIGH_CAP_2, J11 VDDARM23_CAP_2, J12 GND_44, J13 VDDARM_CAP_2, J14 VDDARM_IN_2, J15 GND_45, J16 VDDSOC_IN_2, J17 VDDPU_CAP_2, J18 GND_46, K7 NVCC_MIPI, K8 GND_53, K9 VDDARM23_IN_1, K10 GND_49, K11 VDDARM23_CAP_3, K12 GND_50, K13 VDDARM_CAP_3, K14 VDDARM_IN_3, K15 GND_51, K16 VDDSOC_IN_3, K17 VDDPU_CAP_3, K18 GND_52, K19 NVCC_EIM0, L2 GND_58, L5 GND_59, L8 GND_60, L9 VDDARM23_IN_2, L10 GND_54, L11 VDDARM23_CAP_4, L12 GND_55, L13 VDDARM_CAP_4, L14 VDDARM_IN_4, L15 GND_56, L16 VDDSOC_IN_4, L17 VDDPU_CAP_4, L18 GND_57, L19 NVCC_EIM1, M8 GND_65, M9 VDDARM23_IN_3, M10 GND_61, M11 VDDARM23_CAP_5, M12 GND_62, M13 VDDARM_CAP_5, M14 VDDARM_IN_5, M15 GND_63, M16 VDDSOC_IN_5, M17 VDDPU_CAP_5, M18 GND_64, M19 NVCC_EIM2, N7 NVCC_CSI, N8 GND_69, N9 VDDARM23_IN_4, N10 GND_66, N11 VDDARM23_CAP_6, N12 VDD_CACHE_CAP, N13 VDDARM_CAP_6, N14 VDDARM_IN_6, N15 GND_67, N16 VDDSOC_IN_6, N17 VDDPU_CAP_6, N18 GND_68, P7 NVCC_GPIO, P8 GND_74, P9 VDDARM23_IN_5, P10 GND_70, P11 VDDARM23_CAP_7, P12 GND_71, P13 VDDARM_CAP_7, P14 VDDARM_IN_7, P15 GND_72, P16 VDDSOC_IN_7, P17 VDDPU_CAP_7, P18 GND_73, P19 NVCC_LCD, R8 GND_78, R9 VDDARM23_IN_6, R10 VDDSOC_CAP_1, R11 VDDARM23_CAP_8, R12 GND_75, R13 VDDARM_CAP_8, R14 VDDARM_IN_8, R15 GND_76, R16 VDDSOC_IN_8, R17 GND_77, R19 NVCC_ENET, T8 GND_84, T9 VDDARM23_IN_7, T10 VDDSOC_CAP_2, T11 GND_79, T12 GND_80, T13 VDDSOC_CAP_3, T14 VDDSOC_CAP_4, T15 GND_81, T16 VDDSOC_IN_9, T17 GND_82, T19 GND_83, U8 GND_89, U9 VDDARM23_IN_8, U10 VDDSOC_CAP_5, U11 GND_85, U12 GND_86, U13 VDDSOC_CAP_6, U14 VDDSOC_CAP_7, U15 GND_87, U16 VDDSOC_IN_10, U17 GND_88, U19 GND_90, V8 GND_91, V19 GND_92, W3 GND_93, W7 GND_94, W8 GND_95, W9 GND_96, W10 GND_97, W11 GND_98, W12 GND_99, W13 GND_100, W15 GND_101, W16 GND_102, W17 GND_103, W18 GND_104, W19 GND_105, Y5 GND_106, Y24 GND_107
part C pins: AA5 DRAM_D3, AA6 DRAM_D10, AA8 DRAM_D17, AA9 DRAM_D23, AA11 DRAM_SDCKE1, AA12 DRAM_A14, AA14 DRAM_A2, AA15 DRAM_A10, AA17 DRAM_D32, AA18 DRAM_D33, AA20 DRAM_D45, AA21 DRAM_D57, AA23 DRAM_D61, AA24 ~{DRAM_SDQS7}, AA25 DRAM_SDQS7, AB4 DRAM_D6, AB5 DRAM_D12, AB6 DRAM_D14, AB7 DRAM_D16, AB8 DRAM_DQM2, AB9 DRAM_D18, AB10 ~{DRAM_SDQS3}, AB11 DRAM_D27, AB12 DRAM_SDBA2, AB13 DRAM_A8, AB14 DRAM_A1, AB15 DRAM_RAS, AB16 DRAM_SDWE, AB17 DRAM_SDODT1, AB18 DRAM_DQM4, AB19 DRAM_D38, AB20 DRAM_D41, AB21 DRAM_D42, AB22 DRAM_D52, AB23 DRAM_D60, AB25 DRAM_D56, AC1 DRAM_D4, AC2 DRAM_VREF, AC3 DRAM_DQM0, AC4 DRAM_D2, AC5 DRAM_D13, AC6 DRAM_DQM1, AC7 DRAM_D15, AC8 DRAM_D22, AC9 DRAM_D28, AC10 DRAM_SDQS3, AC11 DRAM_D31, AC12 DRAM_A11, AC13 DRAM_A6, AC14 DRAM_A0, AC15 DRAM_SDBA0, AC16 DRAM_SDODT0, AC17 DRAM_A13, AC18 DRAM_D34, AC19 DRAM_D39, AC20 DRAM_DQM5, AC21 DRAM_D47, AC22 DRAM_D48, AC23 DRAM_D53, AC24 DRAM_D51, AC25 DRAM_D55, AD1 DRAM_D5, AD2 DRAM_D0, AD3 ~{DRAM_SDQS0}, AD5 DRAM_D8, AD6 DRAM_SDQS1, AD8 DRAM_SDQS2, AD9 DRAM_D29, AD11 DRAM_D30, AD12 DRAM_A12, AD14 DRAM_SDCLK_1, AD15 DRAM_SDCLK_0, AD17 DRAM_CS1, AD18 DRAM_SDQS4, AD20 DRAM_SDQS5, AD21 DRAM_D43, AD23 DRAM_SDQS6, AD24 DRAM_DQM6, AD25 DRAM_D54, AE2 DRAM_D1, AE3 DRAM_SDQS0, AE4 DRAM_D7, AE5 DRAM_D9, AE6 ~{DRAM_SDQS1}, AE7 DRAM_D11, AE8 ~{DRAM_SDQS2}, AE9 DRAM_D24, AE10 DRAM_DQM3, AE11 DRAM_D26, AE12 DRAM_A9, AE13 DRAM_A5, AE14 ~{DRAM_SDCLK_1}, AE15 ~{DRAM_SDCLK_0}, AE16 DRAM_CAS, AE17 ZQPAD, AE18 ~{DRAM_SDQS4}, AE19 DRAM_D35, AE20 ~{DRAM_SDQS5}, AE21 DRAM_D46, AE22 DRAM_D49, AE23 ~{DRAM_SDQS6}, AE24 DRAM_D50, R18 NVCC_DRAM_1, T18 NVCC_DRAM_2, U18 NVCC_DRAM_3, V9 NVCC_DRAM_13, V10 NVCC_DRAM_4, V11 NVCC_DRAM_5, V12 NVCC_DRAM_6, V13 NVCC_DRAM_7, V14 NVCC_DRAM_8, V15 NVCC_DRAM_9, V16 NVCC_DRAM_10, V17 NVCC_DRAM_11, V18 NVCC_DRAM_12, W14 DRAM_A4, W25 DRAM_D63, Y6 DRAM_RESET, Y7 DRAM_D20, Y8 DRAM_D21, Y9 DRAM_D19, Y10 DRAM_D25, Y11 DRAM_SDCKE0, Y12 DRAM_A15, Y13 DRAM_A7, Y14 DRAM_A3, Y15 DRAM_SDBA1, Y16 DRAM_CS0, Y17 DRAM_D36, Y18 DRAM_D37, Y19 DRAM_D40, Y20 DRAM_D44, Y21 DRAM_DQM7, Y22 DRAM_D59, Y23 DRAM_D62, Y25 DRAM_D58
part D pins: A12 SATA_PHY_TX_P, A14 SATA_PHY_RX_N, B12 SATA_PHY_TX_N, B14 SATA_PHY_RX_P, C14 SATA_REXT, G12 SATA_VPH, G13 SATA_VP
part E pins: A6 USB_OTG_DP, B6 USB_OTG_DN, B8 ~{USB_OTG_CHD}, D10 USB_H1_VBUS, E9 USB_OTG_VBUS, E10 USB_H1_DP, E23 EIM_DATA22 / ECSPI4_MISO / IPU1_DI0_PIN01 / IPU2_CSI1_DATA10 / USB_OTG_PWR / <GPIO3_IO22> / SPDIF_OUT, F9 VDDUSB_CAP, F10 USB_H1_DN, H20 EIM_DATA21 / ECSPI4_SCLK / IPU1_DI0_PIN17 / IPU2_CSI1_DATA11 / USB_OTG_OC / <GPIO3_IO21> / I2C1_SCL / SPDIF_IN, H21 EIM_DATA31 / IPU1_DISP1_DATA20 / IPU1_DI0_PIN12 / IPU1_CSI0_DATA02 / UART3_RTS_B / <GPIO3_IO31> / USB_H1_PWR, J20 EIM_DATA30 / IPU1_DISP1_DATA21 / IPU1_DI0_PIN11 / IPU1_CSI0_DATA03 / UART3_CTS_B / <GPIO3_IO30> / USB_H1_OC, T4 ESAI_RX_CLK / WDOG2_B / KEY_ROW5 / USB_OTG_ID / PWM2_OUT / <GPIO1_IO01> / SD1_CD_B
part F pins: A17 NAND_CE2_B / IPU1_SISG0 / ESAI_TX0 / EIM_CRE / CCM_CLKO2 / <GPIO6_IO15> / IPU2_SISG0, AA1 LVDS1_DATA1_P, AA2 LVDS1_DATA1_N, AA3 LVDS1_DATA3_N, AA4 LVDS1_DATA3_P, AB1 LVDS1_DATA2_N, AB2 LVDS1_DATA2_P, D24 EIM_DATA18 / ECSPI1_MOSI / IPU1_DI0_PIN07 / IPU2_CSI1_DATA17 / IPU1_DI1_D0_CS / <GPIO3_IO18> / I2C3_SDA, F18 SD1_DATA3 / ECSPI5_SS2 / GPT_COMPARE3 / PWM1_OUT / WDOG2_B / <GPIO1_IO21> / WDOG2_RESET_B_DEB, F21 EIM_DATA17 / ECSPI1_MISO / IPU1_DI0_PIN06 / IPU2_CSI1_PIXCLK / DCIC1_OUT / <GPIO3_IO17> / I2C3_SCL, U1 LVDS0_DATA0_P, U2 LVDS0_DATA0_N, U3 LVDS0_DATA1_P, U4 LVDS0_DATA1_N, V1 LVDS0_DATA2_P, V2 LVDS0_DATA2_N, V3 LVDS0_CLK_P, V4 LVDS0_CLK_N, V7 NVCC_LVDS2P5, W1 LVDS0_DATA3_P, W2 LVDS0_DATA3_N, Y1 LVDS1_DATA0_N, Y2 LVDS1_DATA0_P, Y3 LVDS1_CLK_N, Y4 LVDS1_CLK_P
part G pins: J1 HDMI_REF, J3 HDMI_TX_DATA1_N, J4 HDMI_TX_DATA1_P, J5 HDMI_TX_CLK_N, J6 HDMI_TX_CLK_P, K1 HDMI_TX_HPD, K2 HDMI_TX_DDC_CEC, K3 HDMI_TX_DATA2_N, K4 HDMI_TX_DATA2_P, K5 HDMI_TX_DATA0_N, K6 HDMI_TX_DATA0_P, L7 HDMI_VP, M7 HDMI_VPH, T7 ASRC_EXT_CLK / HDMI_TX_DDC_SDA / KEY_ROW3 / I2C2_SDA / <GPIO4_IO13> / SD1_VSELECT, U5 ECSPI1_SS3 / ENET_CRS / HDMI_TX_DDC_SCL / KEY_COL3 / I2C2_SCL / <GPIO4_IO12> / SPDIF_IN, W4 ECSPI1_SS2 / ENET_TX_DATA2 / FLEXCAN1_RX / KEY_ROW2 / SD2_VSELECT / <GPIO4_IO11> / HDMI_TX_CEC_LINE
part H pins: A24 HSI_RX_WAKE / RGMII_TD3 / <GPIO6_IO23>, B23 HSI_TX_FLAG / RGMII_RD1 / <GPIO6_IO27>, B24 HSI_TX_DATA / RGMII_RD2 / <GPIO6_IO28>, B25 USB_H3_STROBE / RGMII_RXC / <GPIO6_IO30>, C22 HSI_TX_READY / RGMII_TD0 / <GPIO6_IO20>, C23 USB_H2_STROBE / RGMII_TX_CTL / <GPIO6_IO26> / ENET_REF_CLK, C24 HSI_RX_READY / RGMII_RD0 / <GPIO6_IO25>, D21 USB_H2_DATA / RGMII_TXC / SPDIF_EXT_CLK / <GPIO6_IO19> / XTALOSC_REF_CLK_24M, D22 USB_H3_DATA / RGMII_RX_CTL / <GPIO6_IO24>, D23 HSI_TX_WAKE / RGMII_RD3 / <GPIO6_IO29>, E21 HSI_RX_DATA / RGMII_TD2 / <GPIO6_IO22>, F20 HSI_RX_FLAG / RGMII_TD1 / <GPIO6_IO21>, V20 MLB_DATA / ENET_MDC / ESAI_TX5_RX0 / ENET_1588_EVENT1_IN / <GPIO1_IO31>, V21 ENET_TX_EN / ESAI_TX3_RX2 / <GPIO1_IO28>, V22 ENET_TX_CLK / ESAI_RX_FS / <GPIO1_IO23> / SPDIF_SR_CLK, V23 ENET_MDIO / ESAI_RX_CLK / ENET_1588_EVENT1_OUT / <GPIO1_IO22> / SPDIF_LOCK, W22 MLB_SIG / ENET_RX_DATA1 / ESAI_TX_FS / ENET_1588_EVENT3_OUT / <GPIO1_IO26>
part I pins: A2 PCIE_REXT, A3 PCIE_TX_N, B1 PCIE_RX_N, B2 PCIE_RX_P, B3 PCIE_TX_P, C7 XTALOSC_CLK1_N, D7 XTALOSC_CLK1_P, G7 PCIE_VPH, G8 PCIE_VPTX, H7 PCIE_VP, P3 IPU1_CSI0_DATA_EN / EIM_DATA00 / <GPIO5_IO20> / ARM_TRACE_CLK
part J pins: A19 NAND_DATA04 / SD2_DATA4 / <GPIO2_IO04>, A22 SD2_DATA0 / ECSPI5_MISO / AUD4_RXD / KEY_ROW7 / <GPIO1_IO15> / DCIC2_OUT, A23 SD2_DATA2 / ECSPI5_SS1 / EIM_CS3 / AUD4_TXD / KEY_ROW6 / <GPIO1_IO13>, B18 NAND_DATA05 / SD2_DATA5 / <GPIO2_IO05>, B22 SD2_DATA3 / ECSPI5_SS3 / KEY_COL6 / AUD4_TXC / <GPIO1_IO12>, C18 NAND_DATA07 / SD2_DATA7 / <GPIO2_IO07>, C21 SD2_CLK / ECSPI5_SCLK / KEY_COL5 / AUD4_RXFS / <GPIO1_IO10>, D17 NAND_DATA03 / SD1_DATA7 / <GPIO2_IO03>, E17 NAND_DATA06 / SD2_DATA6 / <GPIO2_IO06>, E20 SD2_DATA1 / ECSPI5_SS0 / EIM_CS2 / AUD4_TXFS / KEY_COL7 / <GPIO1_IO14>, F16 NAND_DATA02 / SD1_DATA6 / <GPIO2_IO02>, F19 SD2_CMD / ECSPI5_MOSI / KEY_ROW5 / AUD4_RXC / <GPIO1_IO11>, T3 ESAI_TX_CLK / I2C3_SDA / <GPIO1_IO06> / SD2_LCTL / MLB_SIG
part K pins: A15 SD3_DATA2 / <GPIO7_IO06>, A18 NAND_DATA00 / SD1_DATA4 / <GPIO2_IO00>, B13 SD3_CMD / UART2_CTS_B / FLEXCAN1_TX / <GPIO7_IO02>, B15 SD3_DATA3 / UART3_CTS_B / <GPIO7_IO07>, C13 SD3_DATA5 / UART2_TX_DATA / <GPIO7_IO00>, C17 NAND_DATA01 / SD1_DATA5 / <GPIO2_IO01>, D13 SD3_DATA4 / UART2_RX_DATA / <GPIO7_IO01>, D14 SD3_CLK / UART2_RTS_B / FLEXCAN1_RX / <GPIO7_IO03>, E13 SD3_DATA6 / UART1_RX_DATA / <GPIO6_IO18>, E14 SD3_DATA0 / UART1_CTS_B / FLEXCAN2_TX / <GPIO7_IO04>, F13 SD3_DATA7 / UART1_TX_DATA / <GPIO6_IO17>, F14 SD3_DATA1 / UART1_RTS_B / FLEXCAN2_RX / <GPIO7_IO05>
part L pins: D16 NAND_CE3_B / IPU1_SISG1 / ESAI_TX1 / EIM_ADDR26 / <GPIO6_IO16> / IPU2_SISG1, E15 NAND_WP_B / IPU2_SISG5 / <GPIO6_IO09>, P20 IPU1_DISP0_DATA04 / IPU2_DISP0_DATA04 / ECSPI3_SS1 / <GPIO4_IO25>, P21 IPU1_DISP0_DATA03 / IPU2_DISP0_DATA03 / ECSPI3_SS0 / <GPIO4_IO24>, P22 IPU1_DISP0_DATA01 / IPU2_DISP0_DATA01 / ECSPI3_MOSI / <GPIO4_IO22>, P23 IPU1_DISP0_DATA02 / IPU2_DISP0_DATA02 / ECSPI3_MISO / <GPIO4_IO23>, P24 IPU1_DISP0_DATA00 / IPU2_DISP0_DATA00 / ECSPI3_SCLK / <GPIO4_IO21>, R23 IPU1_DISP0_DATA06 / IPU2_DISP0_DATA06 / ECSPI3_SS3 / AUD6_RXC / <GPIO4_IO27>, R25 IPU1_DISP0_DATA05 / IPU2_DISP0_DATA05 / ECSPI3_SS2 / AUD6_RXFS / <GPIO4_IO26>, T21 IPU1_DISP0_DATA16 / IPU2_DISP0_DATA16 / ECSPI2_MOSI / AUD5_TXC / SDMA_EXT_EVENT0 / <GPIO5_IO10>, U23 IPU1_DISP0_DATA19 / IPU2_DISP0_DATA19 / ECSPI2_SCLK / AUD5_RXD / AUD4_RXC / <GPIO5_IO13> / EIM_CS3, U24 IPU1_DISP0_DATA17 / IPU2_DISP0_DATA17 / ECSPI2_MISO / AUD5_TXD / SDMA_EXT_EVENT1 / <GPIO5_IO11>, V25 IPU1_DISP0_DATA18 / IPU2_DISP0_DATA18 / ECSPI2_SS0 / AUD5_TXFS / AUD4_RXFS / <GPIO5_IO12> / EIM_CS2
part M pins: B20 SD4_DATA6 / UART2_CTS_B / <GPIO2_IO14>, C19 SD4_DATA5 / UART2_RTS_B / <GPIO2_IO13>, D19 SD4_DATA7 / UART2_TX_DATA / <GPIO2_IO15>, D25 EIM_DATA23 / IPU1_DI0_D0_CS / UART3_CTS_B / UART1_DCD_B / IPU2_CSI1_DATA_EN / <GPIO3_IO23> / IPU1_DI1_PIN02 / IPU1_DI1_PIN14, E18 SD4_DATA4 / UART2_RX_DATA / <GPIO2_IO12>, F22 EIM_DATA24 / ECSPI4_SS2 / UART3_TX_DATA / ECSPI1_SS2 / ECSPI2_SS2 / <GPIO3_IO24> / AUD5_RXFS / UART1_DTR_B, F23 EIM_EB3 / ECSPI4_RDY / UART3_RTS_B / UART1_RI_B / IPU2_CSI1_HSYNC / <GPIO2_IO31> / IPU1_DI1_PIN03 / SRC_BOOT_CFG31, G20 EIM_DATA20 / ECSPI4_SS0 / IPU1_DI0_PIN16 / IPU2_CSI1_DATA15 / UART1_RTS_B / <GPIO3_IO20> / EPIT2_OUT, G21 EIM_DATA19 / ECSPI1_SS1 / IPU1_DI0_PIN08 / IPU2_CSI1_DATA16 / UART1_CTS_B / <GPIO3_IO19> / EPIT1_OUT, G22 EIM_DATA25 / ECSPI4_SS3 / UART3_RX_DATA / ECSPI1_SS3 / ECSPI2_SS3 / <GPIO3_IO25> / AUD5_RXC / UART1_DSR_B, M1 IPU1_CSI0_DATA10 / AUD3_RXC / ECSPI2_MISO / UART1_TX_DATA / <GPIO5_IO28> / ARM_TRACE07, M3 IPU1_CSI0_DATA11 / AUD3_RXFS / ECSPI2_SS0 / UART1_RX_DATA / <GPIO5_IO29> / ARM_TRACE08
part N pins: N1 IPU1_CSI0_DATA04 / EIM_DATA02 / ECSPI1_SCLK / KEY_COL5 / AUD3_TXC / <GPIO5_IO22> / ARM_TRACE01, N3 IPU1_CSI0_DATA07 / EIM_DATA05 / ECSPI1_SS0 / KEY_ROW6 / AUD3_RXD / <GPIO5_IO25> / ARM_TRACE04, N4 IPU1_CSI0_DATA06 / EIM_DATA04 / ECSPI1_MISO / KEY_COL6 / AUD3_TXFS / <GPIO5_IO24> / ARM_TRACE03, N5 IPU1_CSI0_DATA09 / EIM_DATA07 / ECSPI2_MOSI / KEY_ROW7 / I2C1_SCL / <GPIO5_IO27> / ARM_TRACE06, N6 IPU1_CSI0_DATA08 / EIM_DATA06 / ECSPI2_SCLK / KEY_COL7 / I2C1_SDA / <GPIO5_IO26> / ARM_TRACE05, P2 IPU1_CSI0_DATA05 / EIM_DATA03 / ECSPI1_MOSI / KEY_ROW5 / AUD3_TXD / <GPIO5_IO23> / ARM_TRACE02, T5 CCM_CLKO1 / KEY_COL5 / ASRC_EXT_CLK / EPIT1_OUT / <GPIO1_IO00> / USB_H1_PWR / SNVS_VIO_5
part O pins: A9 MLB_SIG_N, A10 MLB_DATA_P, A11 MLB_CLK_N, A16 NAND_ALE / SD4_RESET / <GPIO6_IO08>, A20 SD4_DATA3 / <GPIO2_IO11>, A21 SD1_DATA0 / ECSPI5_MISO / GPT_CAPTURE1 / <GPIO1_IO16>, B9 MLB_SIG_P, B10 MLB_DATA_N, B11 MLB_CLK_P, B16 NAND_READY / IPU2_DI0_PIN01 / <GPIO6_IO10>, B17 SD4_CMD / NAND_RE_B / UART3_TX_DATA / <GPIO7_IO09>, B19 SD4_DATA1 / PWM3_OUT / <GPIO2_IO09>, B21 SD1_CMD / ECSPI5_MOSI / PWM4_OUT / GPT_COMPARE1 / <GPIO1_IO18>, C15 NAND_CLE / IPU2_SISG4 / <GPIO6_IO07>, C16 NAND_CE1_B / SD4_VSELECT / SD3_VSELECT / <GPIO6_IO14>, C20 SD1_DATA1 / ECSPI5_SS0 / PWM3_OUT / GPT_CAPTURE2 / <GPIO1_IO17>, C25 EIM_DATA16 / ECSPI1_SCLK / IPU1_DI0_PIN05 / IPU2_CSI1_DATA18 / HDMI_TX_DDC_SDA / <GPIO3_IO16> / I2C2_SDA, D1 CSI_DATA1_N, D2 CSI_DATA1_P, D4 CSI_REXT, D15 SD3_RESET / UART3_RTS_B / <GPIO7_IO08>, D18 SD4_DATA0 / NAND_DQS / <GPIO2_IO08>, D20 SD1_CLK / ECSPI5_SCLK / GPT_CLKIN / <GPIO1_IO20>, E1 CSI_DATA2_N, E2 CSI_DATA2_P, E3 CSI_DATA0_P, E4 CSI_DATA0_N, E16 SD4_CLK / NAND_WE_B / UART3_RX_DATA / <GPIO7_IO10>, E19 SD1_DATA2 / ECSPI5_SS1 / GPT_COMPARE2 / PWM2_OUT / WDOG1_B / <GPIO1_IO19> / WDOG1_RESET_B_DEB, E22 EIM_EB2 / ECSPI1_SS0 / IPU2_CSI1_DATA19 / HDMI_TX_DDC_SCL / <GPIO2_IO30> / I2C2_SCL / SRC_BOOT_CFG30, E24 EIM_DATA26 / IPU1_DI1_PIN11 / IPU1_CSI0_DATA01 / IPU2_CSI1_DATA14 / UART2_TX_DATA / <GPIO3_IO26> / IPU1_SISG2 / IPU1_DISP1_DATA22, E25 EIM_DATA27 / IPU1_DI1_PIN13 / IPU1_CSI0_DATA00 / IPU2_CSI1_DATA13 / UART2_RX_DATA / <GPIO3_IO27> / IPU1_SISG3 / IPU1_DISP1_DATA23, F1 CSI_DATA3_P, F2 CSI_DATA3_N, F3 CSI_CLK0_P, F4 CSI_CLK0_N, F15 NAND_CE0_B / <GPIO6_IO11>, F17 SD4_DATA2 / PWM4_OUT / <GPIO2_IO10>, F24 <EIM_ADDR22> / IPU1_DISP1_DATA17 / IPU2_CSI1_DATA17 / GPIO2_IO16 / SRC_BOOT_CFG22, F25 <EIM_ADDR24> / IPU1_DISP1_DATA19 / IPU2_CSI1_DATA19 / IPU2_SISG2 / IPU1_SISG2 / GPIO5_IO04 / SRC_BOOT_CFG24, G1 DSI_DATA0_P, G2 DSI_DATA0_N, G4 DSI_REXT, G23 EIM_DATA28 / I2C1_SDA / ECSPI4_MOSI / IPU2_CSI1_DATA12 / UART2_CTS_B / <GPIO3_IO28> / IPU1_EXT_TRIG / IPU1_DI0_PIN13, G25 <EIM_ADDR19> / IPU1_DISP1_DATA14 / IPU2_CSI1_DATA14 / GPIO2_IO19 / SRC_BOOT_CFG19, H1 DSI_DATA1_P, H2 DSI_DATA1_N, H3 DSI_CLK0_N, H4 DSI_CLK0_P, H22 <EIM_ADDR20> / IPU1_DISP1_DATA15 / IPU2_CSI1_DATA15 / GPIO2_IO18 / SRC_BOOT_CFG20, H23 <EIM_ADDR21> / IPU1_DISP1_DATA16 / IPU2_CSI1_DATA16 / GPIO2_IO17 / SRC_BOOT_CFG21, H24 <EIM_CS0> / IPU1_DI1_PIN05 / ECSPI2_SCLK / GPIO2_IO23, J19 EIM_DATA29 / IPU1_DI1_PIN15 / ECSPI4_SS0 / UART2_RTS_B / <GPIO3_IO29> / IPU2_CSI1_VSYNC / IPU1_DI0_PIN14, J21 <EIM_ADDR23> / IPU1_DISP1_DATA18 / IPU2_CSI1_DATA18 / IPU2_SISG3 / IPU1_SISG3 / GPIO6_IO06 / SRC_BOOT_CFG23, J22 <EIM_ADDR18> / IPU1_DISP1_DATA13 / IPU2_CSI1_DATA13 / GPIO2_IO20 / SRC_BOOT_CFG18, J23 <EIM_CS1> / IPU1_DI1_PIN06 / ECSPI2_MOSI / GPIO2_IO24, J24 <EIM_OE> / IPU1_DI1_PIN07 / ECSPI2_MISO / GPIO2_IO25, J25 <EIM_AD01> / IPU1_DISP1_DATA08 / IPU2_CSI1_DATA08 / GPIO3_IO01 / SRC_BOOT_CFG01, K20 <EIM_RW> / IPU1_DI1_PIN08 / ECSPI2_SS0 / GPIO2_IO26 / SRC_BOOT_CFG29, K21 <EIM_EB0> / IPU1_DISP1_DATA11 / IPU2_CSI1_DATA11 / CCM_PMIC_READY / GPIO2_IO28 / SRC_BOOT_CFG27, K22 <EIM_LBA> / IPU1_DI1_PIN17 / ECSPI2_SS1 / GPIO2_IO27 / SRC_BOOT_CFG26, K23 <EIM_EB1> / IPU1_DISP1_DATA10 / IPU2_CSI1_DATA10 / GPIO2_IO29 / SRC_BOOT_CFG28, K24 <EIM_AD03> / IPU1_DISP1_DATA06 / IPU2_CSI1_DATA06 / GPIO3_IO03 / SRC_BOOT_CFG03, K25 <EIM_AD06> / IPU1_DISP1_DATA03 / IPU2_CSI1_DATA03 / GPIO3_IO06 / SRC_BOOT_CFG06, L1 IPU1_CSI0_DATA13 / EIM_DATA09 / UART4_RX_DATA / <GPIO5_IO31> / ARM_TRACE10, L3 IPU1_CSI0_DATA17 / EIM_DATA13 / UART4_CTS_B / <GPIO6_IO03> / ARM_TRACE14, L4 IPU1_CSI0_DATA16 / EIM_DATA12 / UART4_RTS_B / <GPIO6_IO02> / ARM_TRACE13, L6 IPU1_CSI0_DATA19 / EIM_DATA15 / UART5_CTS_B / <GPIO6_IO05>, L20 <EIM_AD00> / IPU1_DISP1_DATA09 / IPU2_CSI1_DATA09 / GPIO3_IO00 / SRC_BOOT_CFG00, L21 <EIM_AD02> / IPU1_DISP1_DATA07 / IPU2_CSI1_DATA07 / GPIO3_IO02 / SRC_BOOT_CFG02, L22 <EIM_AD04> / IPU1_DISP1_DATA05 / IPU2_CSI1_DATA05 / GPIO3_IO04 / SRC_BOOT_CFG04, L23 <EIM_AD05> / IPU1_DISP1_DATA04 / IPU2_CSI1_DATA04 / GPIO3_IO05 / SRC_BOOT_CFG05, L24 <EIM_AD08> / IPU1_DISP1_DATA01 / IPU2_CSI1_DATA01 / GPIO3_IO08 / SRC_BOOT_CFG08, L25 <EIM_AD07> / IPU1_DISP1_DATA02 / IPU2_CSI1_DATA02 / GPIO3_IO07 / SRC_BOOT_CFG07, M2 IPU1_CSI0_DATA12 / EIM_DATA08 / UART4_TX_DATA / <GPIO5_IO30> / ARM_TRACE09, M4 IPU1_CSI0_DATA14 / EIM_DATA10 / UART5_TX_DATA / <GPIO6_IO00> / ARM_TRACE11, M5 IPU1_CSI0_DATA15 / EIM_DATA11 / UART5_RX_DATA / <GPIO6_IO01> / ARM_TRACE12, M6 IPU1_CSI0_DATA18 / EIM_DATA14 / UART5_RTS_B / <GPIO6_IO04> / ARM_TRACE15, M20 <EIM_AD11> / IPU1_DI1_PIN02 / IPU2_CSI1_HSYNC / GPIO3_IO11 / SRC_BOOT_CFG11, M21 <EIM_AD09> / IPU1_DISP1_DATA00 / IPU2_CSI1_DATA00 / GPIO3_IO09 / SRC_BOOT_CFG09, M22 <EIM_AD10> / IPU1_DI1_PIN15 / IPU2_CSI1_DATA_EN / GPIO3_IO10 / SRC_BOOT_CFG10, M23 <EIM_AD13> / IPU1_DI1_D0_CS / GPIO3_IO13 / SRC_BOOT_CFG13, M24 <EIM_AD12> / IPU1_DI1_PIN03 / IPU2_CSI1_VSYNC / GPIO3_IO12 / SRC_BOOT_CFG12, M25 <EIM_WAIT> / EIM_DTACK_B / GPIO5_IO00 / SRC_BOOT_CFG25, N2 IPU1_CSI0_VSYNC / EIM_DATA01 / <GPIO5_IO21> / ARM_TRACE00, N19 IPU1_DI0_DISP_CLK / IPU2_DI0_DISP_CLK / <GPIO4_IO16>, N20 IPU1_DI0_PIN03 / IPU2_DI0_PIN03 / AUD6_TXFS / <GPIO4_IO19>, N21 IPU1_DI0_PIN15 / IPU2_DI0_PIN15 / AUD6_TXC / <GPIO4_IO17>, N22 <EIM_BCLK> / IPU1_DI1_PIN16 / GPIO6_IO31, N23 <EIM_AD14> / IPU1_DI1_D1_CS / GPIO3_IO14 / SRC_BOOT_CFG14, N24 <EIM_AD15> / IPU1_DI1_PIN01 / IPU1_DI1_PIN04 / GPIO3_IO15 / SRC_BOOT_CFG15, N25 IPU1_DI0_PIN02 / IPU2_DI0_PIN02 / AUD6_TXD / <GPIO4_IO18>, P1 IPU1_CSI0_PIXCLK / <GPIO5_IO18> / ARM_EVENTO, P4 IPU1_CSI0_HSYNC / CCM_CLKO1 / <GPIO5_IO19> / ARM_TRACE_CTL, P5 KEY_COL5 / ENET_1588_EVENT0_OUT / SPDIF_OUT / CCM_CLKO1 / ECSPI1_RDY / <GPIO4_IO05> / ENET_TX_ER, P6 ESAI_TX1 / ENET_RX_CLK / SD3_VSELECT / SDMA_EXT_EVENT1 / ASRC_EXT_CLK / <GPIO7_IO13> / SNVS_VIO_5_CTL, P25 IPU1_DI0_PIN04 / IPU2_DI0_PIN04 / AUD6_RXD / SD1_WP / <GPIO4_IO20>, R1 ESAI_TX0 / ENET_1588_EVENT3_IN / CCM_PMIC_READY / SDMA_EXT_EVENT0 / SPDIF_OUT / <GPIO7_IO12>, R2 ESAI_TX3_RX2 / ENET_1588_EVENT2_IN / ENET_REF_CLK / SD1_LCTL / SPDIF_IN / <GPIO7_IO11> / I2C3_SDA / JTAG_DE_B, R3 ESAI_TX4_RX1 / ECSPI5_RDY / EPIT1_OUT / FLEXCAN1_TX / UART2_TX_DATA / <GPIO1_IO07> / SPDIF_LOCK / USB_OTG_HOST_MODE, R4 ESAI_TX2_RX3 / KEY_ROW7 / CCM_CLKO1 / <GPIO1_IO05> / I2C3_SCL / ARM_EVENTI, R5 ESAI_TX5_RX0 / XTALOSC_REF_CLK_32K / EPIT2_OUT / FLEXCAN1_RX / UART2_RX_DATA / <GPIO1_IO08> / SPDIF_SR_CLK / USB_OTG_PWR_CTL_WAKE, R6 ESAI_TX_HF_CLK / KEY_COL7 / <GPIO1_IO04> / SD2_CD_B, R7 ESAI_RX_HF_CLK / I2C3_SCL / XTALOSC_REF_CLK_24M / CCM_CLKO2 / <GPIO1_IO03> / USB_H1_OC / MLB_CLK, R20 IPU1_DISP0_DATA13 / IPU2_DISP0_DATA13 / AUD5_RXFS / <GPIO5_IO07>, R21 IPU1_DISP0_DATA10 / IPU2_DISP0_DATA10 / <GPIO4_IO31>, R24 IPU1_DISP0_DATA07 / IPU2_DISP0_DATA07 / ECSPI3_RDY / <GPIO4_IO28>, T2 ESAI_RX_FS / WDOG1_B / KEY_COL6 / CCM_REF_EN_B / PWM1_OUT / <GPIO1_IO09> / SD1_WP, T6 FLEXCAN2_TX / IPU1_SISG4 / USB_OTG_OC / KEY_COL4 / UART5_RTS_B / <GPIO4_IO14>, T20 IPU1_DISP0_DATA21 / IPU2_DISP0_DATA21 / ECSPI1_MOSI / AUD4_TXD / <GPIO5_IO15>, T22 IPU1_DISP0_DATA15 / IPU2_DISP0_DATA15 / ECSPI1_SS1 / ECSPI2_SS1 / <GPIO5_IO09>, T23 IPU1_DISP0_DATA11 / IPU2_DISP0_DATA11 / <GPIO5_IO05>, T24 IPU1_DISP0_DATA12 / IPU2_DISP0_DATA12 / <GPIO5_IO06>, T25 IPU1_DISP0_DATA09 / IPU2_DISP0_DATA09 / PWM2_OUT / WDOG2_B / <GPIO4_IO30>, U6 ECSPI1_SS0 / ENET_COL / AUD5_RXD / KEY_ROW1 / UART5_RX_DATA / <GPIO4_IO09> / SD2_VSELECT, U7 ECSPI1_MISO / ENET_MDIO / AUD5_TXFS / KEY_COL1 / UART5_TX_DATA / <GPIO4_IO08> / SD1_VSELECT, U20 ENET_TX_DATA0 / ESAI_TX4_RX1 / <GPIO1_IO30>, U22 IPU1_DISP0_DATA20 / IPU2_DISP0_DATA20 / ECSPI1_SCLK / AUD4_TXC / <GPIO5_IO14>, U25 IPU1_DISP0_DATA14 / IPU2_DISP0_DATA14 / AUD5_RXC / <GPIO5_IO08>, V5 FLEXCAN2_RX / IPU1_SISG5 / USB_OTG_PWR / KEY_ROW4 / UART5_CTS_B / <GPIO4_IO15>, V6 ECSPI1_MOSI / ENET_TX_DATA3 / AUD5_TXD / KEY_ROW0 / UART4_RX_DATA / <GPIO4_IO07> / DCIC2_OUT, V24 IPU1_DISP0_DATA22 / IPU2_DISP0_DATA22 / ECSPI1_MISO / AUD4_TXFS / <GPIO5_IO16>, W5 ECSPI1_SCLK / ENET_RX_DATA3 / AUD5_TXC / KEY_COL0 / UART4_TX_DATA / <GPIO4_IO06> / DCIC1_OUT, W6 ECSPI1_SS1 / ENET_RX_DATA2 / FLEXCAN1_TX / KEY_COL2 / ENET_MDC / <GPIO4_IO10> / USB_H1_PWR_CTL_WAKE, W20 MLB_CLK / ENET_TX_DATA1 / ESAI_TX2_RX3 / ENET_1588_EVENT0_IN / <GPIO1_IO29>, W21 ENET_RX_DATA0 / ESAI_TX_HF_CLK / SPDIF_OUT / <GPIO1_IO27>, W23 USB_OTG_ID / ENET_RX_ER / ESAI_RX_HF_CLK / SPDIF_IN / ENET_1588_EVENT2_OUT / <GPIO1_IO24>, W24 IPU1_DISP0_DATA23 / IPU2_DISP0_DATA23 / ECSPI1_SS0 / AUD4_RXD / <GPIO5_IO17>
part A text: i.MX6Q - CONTROL
part B text: i.MX6Q - POWER
part C text: i.MX6Q - DDR; BANK0; BANK1; BANK2; BANK3; BANK4; BANK5; BANK6; BANK7
part D text: i.MX6Q - SATA
part E text: i.MX6Q - USB
part F text: i.MX6Q - LVDS
part G text: i.MX6Q - HDMI
part H text: i.MX6Q - RGMII
part I text: i.MX6Q - PCIe
part J text: i.MX6Q - SD2
part K text: i.MX6Q - SD3
part L text: SPINOR; i.MX6Q - SPI, I2C; ECSPI2; I2C4
part M text: i.MX6Q - UART; NVCC_UART1; NVCC_UART2
part N text: i.MX6Q - AUDIO
part O text: i.MX6Q - UNUSED

## MH_5MMC_2.2MMD
designator MH?  (value not drawn)  (no BOM)
MOUNTING HOLE 5mm D, 2.2mm Drill
footprint MH_5MMD_2.2MMD
pins: 1

## MIC33050-4YHL TR
designator U?
IC PWM REG 600mA 1.2V 12-MLF; Manufacturer 1: Micrel Inc; Manufacturer Part Number 1: MIC33050-4YHL TR; Supplier 1: Digi-Key; Supplier Part Number 1: 576-3044-1-ND
footprint MIC33050-4YHL TR (12-VFDFN Exposed Pad, 3.00mm L x 3.00mm W)
pins: 1 VIN, 2 PGND, 3 SW, 4 SW, 5 SW, 6 SW, 7 OUT, 8 OUT, 9 EN, 10 SNS, 11 CFF, 12 AGND, 13 EPAD, 14 SW_EP, 15 OUT_EP

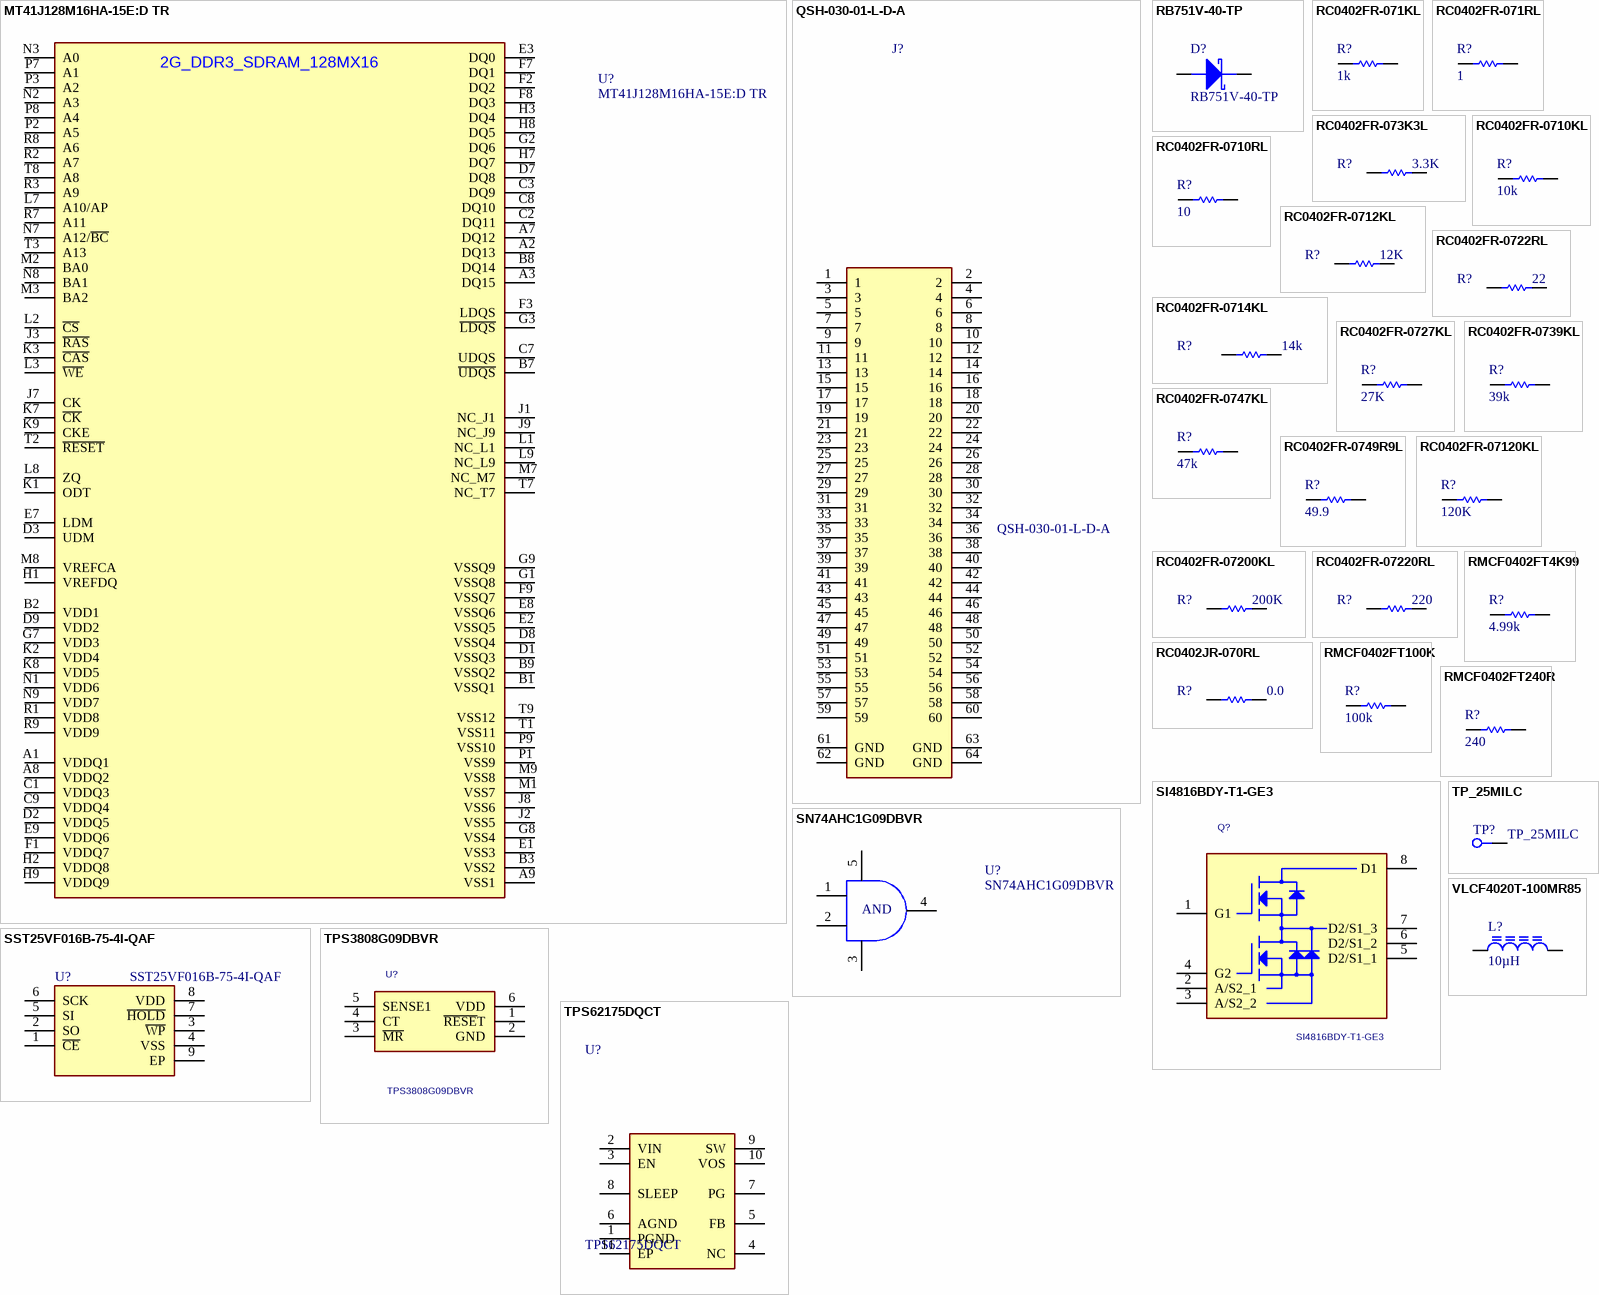
[diagram p7: symbols MT41J128M16HA-15E:D TR to VLCF4020T-100MR85]

## MT41J128M16HA-15E:D TR
designator U?
IC DDR3 SDRAM 2GBIT 667MHZ 96BGA; Manufacturer 1: Micron Technology Inc; Supplier 1: Digi-Key; Manufacturer Part Number 1: MT41J128M16HA-15E:D TR; ComponentLink1URL: http://www.micron.com/~/media/Documents/Products/Data%20Sheet/DRAM/2Gb_DDR3_SDRAM.pdf; ComponentLink1Description: http://www.micron.com/~/media/Documents/Products/Data%20Sheet/DRAM/2Gb_DDR3_SDRAM.pdf; Supplier Part Number 1: 557-1493-1-ND
footprint MT41J128M16HA-15E:D TR (96-FBGA, 9.00mm L x 14.00mm W)
pins: A1 VDDQ1, A2 DQ13, A3 DQ15, A7 DQ12, A8 VDDQ2, A9 VSS1, B1 VSSQ1, B2 VDD1, B3 VSS2, B7 ~{UDQS}, B8 DQ14, B9 VSSQ2, C1 VDDQ3, C2 DQ11, C3 DQ9, C7 UDQS, C8 DQ10, C9 VDDQ4, D1 VSSQ3, D2 VDDQ5, D3 UDM, D7 DQ8, D8 VSSQ4, D9 VDD2, E1 VSS3, E2 VSSQ5, E3 DQ0, E7 LDM, E8 VSSQ6, E9 VDDQ6, F1 VDDQ7, F2 DQ2, F3 LDQS, F7 DQ1, F8 DQ3, F9 VSSQ7, G1 VSSQ8, G2 DQ6, G3 ~{LDQS}, G7 VDD3, G8 VSS4, G9 VSSQ9, H1 VREFDQ, H2 VDDQ8, H3 DQ4, H7 DQ7, H8 DQ5, H9 VDDQ9, J1 NC_J1, J2 VSS5, J3 ~{RAS}, J7 CK, J8 VSS6, J9 NC_J9, K1 ODT, K2 VDD4, K3 ~{CAS}, K7 ~{CK}, K8 VDD5, K9 CKE, L1 NC_L1, L2 ~{CS}, L3 ~{WE}, L7 A10/AP, L8 ZQ, L9 NC_L9, M1 VSS7, M2 BA0, M3 BA2, M7 NC_M7, M8 VREFCA, M9 VSS8, N1 VDD6, N2 A3, N3 A0, N7 A12/~{BC}, N8 BA1, N9 VDD7, P1 VSS9, P2 A5, P3 A2, P7 A1, P8 A4, P9 VSS10, R1 VDD8, R2 A7, R3 A9, R7 A11, R8 A6, R9 VDD9, T1 VSS11, T2 ~{RESET}, T3 A13, T7 NC_T7, T8 A8, T9 VSS12
text: 2G_DDR3_SDRAM_128MX16

## QSH-030-01-L-D-A
designator J?
CONN RCPT HI-SPD .5MM 60POS DL; Manufacturer 1: Samtec Inc; Manufacturer Part Number 1: QSH-030-01-L-D-A; Supplier 1: Digi-Key; Supplier Part Number 1: SAM8180-ND
footprint QSH-030-01-L-D-A
pins: 1, 2, 3, 4, 5, 6, 7, 8, 9, 10, 11, 12, 13, 14, 15, 16, 17, 18, 19, 20, 21, 22, 23, 24, 25, 26, 27, 28, 29, 30, 31, 32, 33, 34, 35, 36, 37, 38, 39, 40, 41, 42, 43, 44, 45, 46, 47, 48, 49, 50, 51, 52, 53, 54, 55, 56, 57, 58, 59, 60, 61 GND, 62 GND, 63 GND, 64 GND, 65 HOLE1 hidden, 66 HOLE2 hidden

## RB751V-40-TP
designator D?
DIODE SCHTKY 30MA 30V SOD-323; Manufacturer 1: Micro Commercial Co; Supplier 1: Digi-Key; Supplier Part Number 1: RB751V-40-TPMSCT-ND; Manufacturer Part Number 1: RB751V-40-TP
footprint SOD-323 (Diode Schottky 40 V 1A Surface Mount SOD-323)
pins: 1 cathode, 2 ANODE

## RC0402FR-071KL
designator R?, comment 1k
RES 1.00K OHM 1/16W 1% 0402 SMD; Manufacturer 1: Yageo; Manufacturer Part Number 1: RC0402FR-071KL; Resistance: 1k; Supplier 1: Digi-Key; Supplier Part Number 1: 311-1.00KLRCT-ND; ComponentLink1URL: http://www.yageo.com/documents/recent/PYu-RC0402_51_RoHS_L_6.pdf; ComponentLink1Description: http://www.yageo.com/documents/recent/PYu-RC0402_51_RoHS_L_6.pdf
footprint R0402
pins: 1, 2

## RC0402FR-071RL
designator R?, comment 1
RES 1.00 OHM 1/16W 1% 0402 SM; Manufacturer 1: Yageo; Manufacturer Part Number 1: RC0402FR-071RL; Resistance: 1; Supplier 1: Digi-Key; Supplier Part Number 1: 311-1.00LRCT-ND; ComponentLink1URL: http://www.yageo.com/documents/recent/PYu-RC0402_51_RoHS_L_6.pdf; ComponentLink1Description: http://www.yageo.com/documents/recent/PYu-RC0402_51_RoHS_L_6.pdf
footprint R0402
pins: 1, 2

## RC0402FR-073K3L
designator R?, comment 3.3K
RES 3.30K OHM 1/16W 1% 0402 SMD; Manufacturer 1: Yageo; Manufacturer Part Number 1: RC0402FR-073K3L; Resistance: 3.3K; Supplier 1: Digi-Key; Supplier Part Number 1: 311-3.30KLRCT-ND; ComponentLink1URL: http://www.yageo.com/documents/recent/PYu-RC0402_51_RoHS_L_6.pdf; ComponentLink1Description: http://www.yageo.com/documents/recent/PYu-RC0402_51_RoHS_L_6.pdf
footprint R0402
pins: 1, 2

## RC0402FR-0710KL
designator R?, comment 10k
RES 10.0K OHM 1/16W 1% 0402 SMD; Manufacturer 1: Yageo; Manufacturer Part Number 1: RC0402FR-0710KL; Resistance: 10k; Supplier 1: Digi-Key; Supplier Part Number 1: 311-10.0KLRCT-ND; ComponentLink1URL: http://www.yageo.com/documents/recent/PYu-RC0402_51_RoHS_L_6.pdf; ComponentLink1Description: http://www.yageo.com/documents/recent/PYu-RC0402_51_RoHS_L_6.pdf
footprint R0402
pins: 1, 2

## RC0402FR-0710RL
designator R?, comment 10
RES 10.0 OHM 1/16W 1% 0402 SMD; Manufacturer 1: Yageo; Manufacturer Part Number 1: RC0402FR-0710RL; Resistance: 10; Supplier 1: Digi-Key; Supplier Part Number 1: 311-10.0LRCT-ND; ComponentLink1URL: http://www.yageo.com/documents/recent/PYu-RC0402_51_RoHS_L_6.pdf; ComponentLink1Description: http://www.yageo.com/documents/recent/PYu-RC0402_51_RoHS_L_6.pdf
footprint R0402
pins: 1, 2

## RC0402FR-0712KL
designator R?, comment 12K
RES 12.0K OHM 1/16W 1% 0402 SMD; Manufacturer 1: Yageo; Manufacturer Part Number 1: RC0402FR-0712KL; Resistance: 12K; Supplier 1: Digi-Key; Supplier Part Number 1: 311-12.0KLRCT-ND; ComponentLink1URL: http://www.yageo.com/documents/recent/PYu-RC0402_51_RoHS_L_6.pdf; ComponentLink1Description: http://www.yageo.com/documents/recent/PYu-RC0402_51_RoHS_L_6.pdf
footprint R0402
pins: 1, 2

## RC0402FR-0714KL
designator R?, comment 14k
RES 14.0K OHM 1/16W 1% 0402 SMD; Manufacturer 1: Yageo; Manufacturer Part Number 1: RC0402FR-0714KL; Supplier 1: Digi-Key; Resistance: 14k; ComponentLink1URL: http://www.yageo.com/documents/recent/PYu-RC0402_51_RoHS_L_6.pdf; ComponentLink1Description: http://www.yageo.com/documents/recent/PYu-RC0402_51_RoHS_L_6.pdf; Supplier Part Number 1: 311-14.0KLRCT-ND
footprint R0402
pins: 1, 2

## RC0402FR-0722RL
designator R?, comment 22
RES 22.0 OHM 1/16W 1% 0402 SMD; Manufacturer 1: Yageo; Manufacturer Part Number 1: RC0402FR-0722RL; Resistance: 22; Supplier 1: Digi-Key; Supplier Part Number 1: 311-22.0LRCT-ND; ComponentLink1URL: http://www.yageo.com/documents/recent/PYu-RC0402_51_RoHS_L_6.pdf; ComponentLink1Description: http://www.yageo.com/documents/recent/PYu-RC0402_51_RoHS_L_6.pdf
footprint R0402
pins: 1, 2

## RC0402FR-0727KL
designator R?, comment 27K
RES 27.0K OHM 1/16W 1% 0402 SMD; Manufacturer 1: Yageo; Manufacturer Part Number 1: RC0402FR-0727KL; Resistance: 27K; Supplier 1: Digi-Key; Supplier Part Number 1: 311-27.0KLRCT-ND; ComponentLink1URL: http://www.yageo.com/documents/recent/PYu-RC0402_51_RoHS_L_6.pdf; ComponentLink1Description: http://www.yageo.com/documents/recent/PYu-RC0402_51_RoHS_L_6.pdf
footprint R0402
pins: 1, 2

## RC0402FR-0739KL
designator R?, comment 39k
RES 39.0K OHM 1/16W 1% 0402 SMD; Manufacturer 1: Yageo; Manufacturer Part Number 1: RC0402FR-0739KL; Resistance: 39k; Supplier 1: Digi-Key; Supplier Part Number 1: 311-39.0KLRCT-ND; ComponentLink1URL: http://www.yageo.com/documents/recent/PYu-RC0402_51_RoHS_L_6.pdf; ComponentLink1Description: http://www.yageo.com/documents/recent/PYu-RC0402_51_RoHS_L_6.pdf
footprint R0402
pins: 1, 2

## RC0402FR-0747KL
designator R?, comment 47k
RES 47.0K OHM 1/16W 1% 0402 SMD; Manufacturer: Yageo; Manufacturer Part Number: RC0402FR-0747KL; Resistance: 47k; Supplier 1: Digi-Key; Supplier Part Number 1: 311-47.0KLRCT-ND; ComponentLink1URL: http://www.yageo.com/documents/recent/PYu-RC0402_51_RoHS_L_6.pdf; ComponentLink1Description: http://www.yageo.com/documents/recent/PYu-RC0402_51_RoHS_L_6.pdf
footprint R0402
pins: 1, 2

## RC0402FR-0749R9L
designator R?, comment 49.9
RES 49.9 OHM 1/16W 1% 0402 SMD; Manufacturer 1: Yageo; Manufacturer Part Number 1: RC0402FR-0749R9L; Resistance: 49.9; Supplier 1: Digi-Key; Supplier Part Number 1: 311-49.9LRCT-ND; ComponentLink1URL: http://www.yageo.com/documents/recent/PYu-RC0402_51_RoHS_L_6.pdf; ComponentLink1Description: http://www.yageo.com/documents/recent/PYu-RC0402_51_RoHS_L_6.pdf
footprint R0402
pins: 1, 2

## RC0402FR-07120KL
designator R?, comment 120K
RES 120K OHM 1/16W 1% 0402 SMD; Manufacturer 1: Yageo; Manufacturer Part Number 1: RC0402FR-07120KL; Resistance: 120K; Supplier 1: Digi-Key; Supplier Part Number 1: 311-120KLRCT-ND; ComponentLink1URL: http://www.yageo.com/documents/recent/PYu-RC0402_51_RoHS_L_6.pdf; ComponentLink1Description: http://www.yageo.com/documents/recent/PYu-RC0402_51_RoHS_L_6.pdf
footprint R0402
pins: 1, 2

## RC0402FR-07200KL
designator R?, comment 200K
RES 200K OHM 1/16W 1% 0402 SMD; Manufacturer 1: Yageo; Manufacturer Part Number 1: RC0402FR-07200KL; Resistance: 200K; Supplier 1: Digi-Key; Supplier Part Number 1: 311-200KLRCT-ND; ComponentLink1URL: http://www.yageo.com/documents/recent/PYu-RC0402_51_RoHS_L_6.pdf; ComponentLink1Description: http://www.yageo.com/documents/recent/PYu-RC0402_51_RoHS_L_6.pdf
footprint R0402
pins: 1, 2

## RC0402FR-07220RL
designator R?, comment 220
RES 220 OHM 1/16W 1% 0402 SMD; Manufacturer 1: Yageo; Manufacturer Part Number 1: RC0402FR-07220RL; Resistance: 220; Supplier 1: Digi-Key; Supplier Part Number 1: 311-220LRCT-ND; ComponentLink1URL: http://www.yageo.com/documents/recent/PYu-RC0402_51_RoHS_L_6.pdf; ComponentLink1Description: http://www.yageo.com/documents/recent/PYu-RC0402_51_RoHS_L_6.pdf
footprint R0402
pins: 1, 2

## RC0402JR-070RL
designator R?, comment 0.0
RES 0.0 OHM 1/16W 0402 SMD; Manufacturer 1: Yageo; Manufacturer Part Number 1: RC0402JR-070RL; Resistance: 0.0; Supplier 1: Digi-Key; Supplier Part Number 1: 311-0.0JRCT-ND; ComponentLink1URL: http://www.yageo.com/documents/recent/PYu-RC0402_51_RoHS_L_6.pdf; ComponentLink1Description: http://www.yageo.com/documents/recent/PYu-RC0402_51_RoHS_L_6.pdf
footprint R0402
pins: 1, 2

## RMCF0402FT4K99
designator R?, comment 4.99k
RES TF 4.99K OHM 1% 1/16W 0402; Manufacturer 1: Stackpole Electronics Inc; Manufacturer Part Number 1: RMCF0402FT4K99; Resistance: 4.99k; Supplier 1: Digi-Key; Supplier Part Number 1: RMCF0402FT4K99CT-ND; ComponentLink1URL: http://www.seielect.com/Catalog/SEI-RMCF.pdf; ComponentLink1Description: http://www.seielect.com/Catalog/SEI-RMCF.pdf
footprint R0402
pins: 1, 2

## RMCF0402FT100K
designator R?, comment 100k
RES 100K OHM 1/16W 1% 0402 SMD; Manufacturer 1: Stackpole Electronics Inc; Manufacturer Part Number 1: RMCF0402FT100K; Resistance: 100k; Supplier 1: Digi-Key; Supplier Part Number 1: RMCF0402FT100KCT-ND; ComponentLink1URL: http://www.seielect.com/Catalog/SEI-RMCF.pdf; ComponentLink1Description: http://www.seielect.com/Catalog/SEI-RMCF.pdf
footprint R0402
pins: 1, 2

## RMCF0402FT240R
designator R?, comment 240
RES TF 240 OHM 1% 0.0625W 0402; Manufacturer 1: Stackpole Electronics Inc; Manufacturer Part Number 1: RMCF0402FT240R; Resistance: 240; Supplier 1: Digi-Key; Supplier Part Number 1: RMCF0402FT240RCT-ND; ComponentLink1URL: http://www.seielect.com/Catalog/SEI-RMCF.pdf; ComponentLink1Description: http://www.seielect.com/Catalog/SEI-RMCF.pdf
footprint R0402
pins: 1, 2

## SI4816BDY-T1-GE3
designator Q?
MOSFET DL N-CH 30V 6.8A 8-SOIC; Manufacturer 1: Vishay/Siliconix; Manufacturer Part Number 1: SI4816BDY-T1-GE3; Supplier 1: Digi-Key; Supplier Part Number 1: SI4816BDY-T1-GE3CT-ND; ComponentLink1URL: http://www.vishay.com/docs/73026/si4816bd.pdf; ComponentLink1Description: http://www.vishay.com/docs/73026/si4816bd.pdf
footprint SO8 (5.00mm L x 6.20mm W)
pins: 1 G1, 2 A/S2_1, 3 A/S2_2, 4 G2, 5 D2/S1_1, 6 D2/S1_2, 7 D2/S1_3, 8 D1